# Altium integrated library SignalCommunications.IntLib: 804 symbols (part 3 of 10)
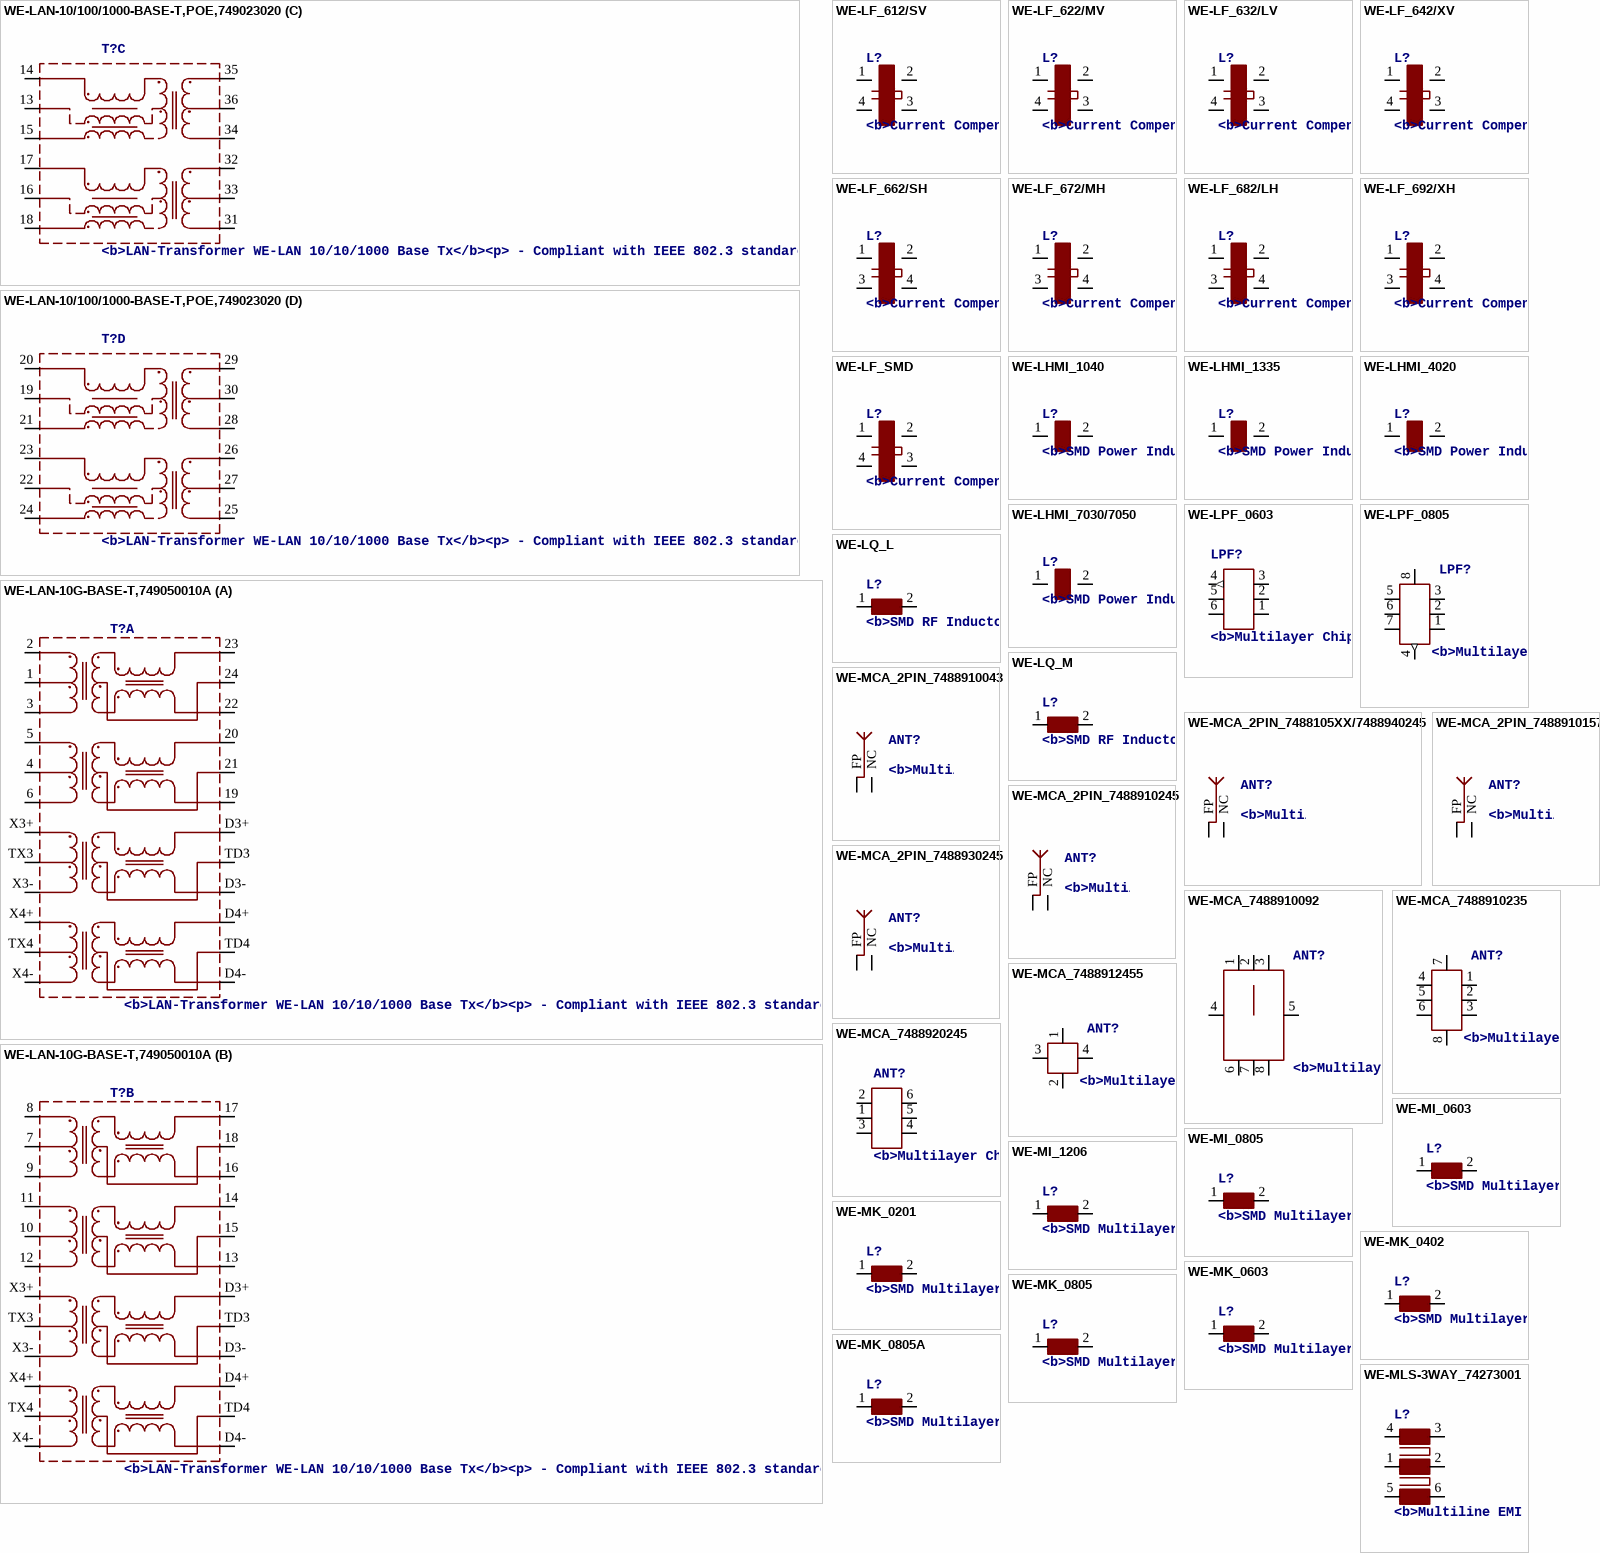
[diagram p44: symbols WE-LAN-10/100/1000-BASE-T,POE,749023020 to WE-MLS-3WAY_74273001]

## WE-MK_0805A
designator L?, comment <b>SMD Multilayer Ceramic Inductors WE-MK</b><br><br> / - Windings printed on ceramic substrate<br> / - Extremely high SRF > 15 GHz<br> / - Inductance is stable over temperature<br><br> / -- High frequency circuits<br> / -- Bluetooth<br> / -- Wireless LAN<br> / -- Filter circuits<br>
footprint 0805A
pins: 1, 2

## WE-MLS-3WAY_74273001
designator L?, comment <b>Multiline EMI Suppression Ferrite</b><p> / - Filter for common mode or differential mode<br> / - High rated current with typ. 4 A<br> / - High impedance common mode inductor with 2x2 winding made by PCB line connection<br> / - Broardband litering because of the NiZn-ferrite core<br> / - RF- common mode inductor for 2,3 or 4 lines in one component<p> / -- Perfect suitable for absorption of common or differential / mode interferences in the field of EMC<br> / -- High current DC output filters of power supplies e.g. / battery chargers, industrial power supplies<br> / -- With one turn the component performes like a 3 or 4 times common mode chock for the signal
footprint WE-3WAY_74273001
pins: 1 2, 2 5, 3 6, 4 1, 5 3, 6 4

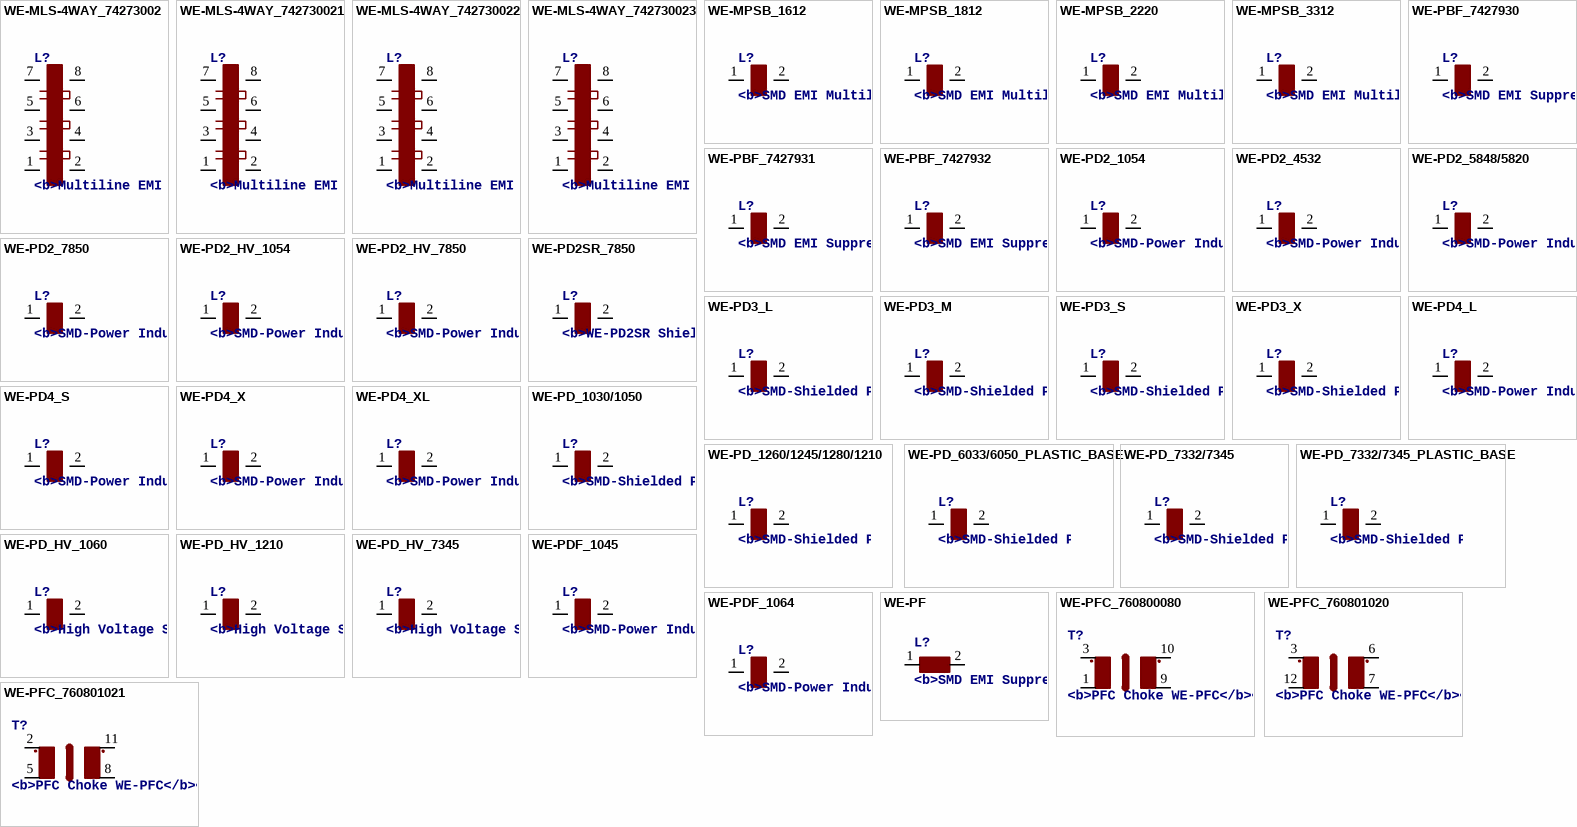
[diagram p10: symbols WE-MLS-4WAY_74273002 to WE-PFC_760801021]

## WE-MLS-4WAY_74273002
designator L?, comment <b>Multiline EMI Suppression Ferrite</b><p> / - Filter for common mode or differential mode<br> / - High rated current with typ. 4 A<br> / - High impedance common mode inductor with 2x2 winding made by PCB line connection<br> / - Broardband litering because of the NiZn-ferrite core<br> / - RF- common mode inductor for 2,3 or 4 lines in one component<p> / -- Perfect suitable for absorption of common or differential / mode interferences in the field of EMC<br> / -- High current DC output filters of power supplies e.g. / battery chargers, industrial power supplies<br> / -- With one turn the component performes like a 3 or 4 times common mode chock for the signal
footprint WE-4WAY_74273002
pins: 1 4, 2 5, 3, 4 6, 5 2, 6 7, 7 1, 8

## WE-MLS-4WAY_742730021
designator L?, comment <b>Multiline EMI Suppression Ferrite</b><p> / - Filter for common mode or differential mode<br> / - High rated current with typ. 4 A<br> / - High impedance common mode inductor with 2x2 winding made by PCB line connection<br> / - Broardband litering because of the NiZn-ferrite core<br> / - RF- common mode inductor for 2,3 or 4 lines in one component<p> / -- Perfect suitable for absorption of common or differential / mode interferences in the field of EMC<br> / -- High current DC output filters of power supplies e.g. / battery chargers, industrial power supplies<br> / -- With one turn the component performes like a 3 or 4 times common mode chock for the signal
footprint WE-4WAY_742730021
pins: 1 4, 2 5, 3, 4 6, 5 2, 6 7, 7 1, 8

## WE-MLS-4WAY_742730022
designator L?, comment <b>Multiline EMI Suppression Ferrite</b><p> / - Filter for common mode or differential mode<br> / - High rated current with typ. 4 A<br> / - High impedance common mode inductor with 2x2 winding made by PCB line connection<br> / - Broardband litering because of the NiZn-ferrite core<br> / - RF- common mode inductor for 2,3 or 4 lines in one component<p> / -- Perfect suitable for absorption of common or differential / mode interferences in the field of EMC<br> / -- High current DC output filters of power supplies e.g. / battery chargers, industrial power supplies<br> / -- With one turn the component performes like a 3 or 4 times common mode chock for the signal
footprint WE-4WAY_742730022
pins: 1 4, 2 5, 3, 4 6, 5 2, 6 7, 7 1, 8

## WE-MLS-4WAY_742730023
designator L?, comment <b>Multiline EMI Suppression Ferrite</b><p> / - Filter for common mode or differential mode<br> / - High rated current with typ. 4 A<br> / - High impedance common mode inductor with 2x2 winding made by PCB line connection<br> / - Broardband litering because of the NiZn-ferrite core<br> / - RF- common mode inductor for 2,3 or 4 lines in one component<p> / -- Perfect suitable for absorption of common or differential / mode interferences in the field of EMC<br> / -- High current DC output filters of power supplies e.g. / battery chargers, industrial power supplies<br> / -- With one turn the component performes like a 3 or 4 times common mode chock for the signal
footprint WE-4WAY_742730023
pins: 1 4, 2 5, 3, 4 6, 5 2, 6 7, 7 1, 8

## WE-MPSB_1612
designator L?, comment <b>SMD EMI Multilayer Power Suppression Bead WE-MPSB</b><p> / - High rated current up to 10A <br> / - Very low RDC <p> / -- EMI suppression of DC/DC converters and DC power supply
footprint WE-MPSB_1612
pins: 1, 2

## WE-MPSB_1812
designator L?, comment <b>SMD EMI Multilayer Power Suppression Bead WE-MPSB</b><p> / - High rated current up to 10A <br> / - Very low RDC <p> / -- EMI suppression of DC/DC converters and DC power supply
footprint WE-MPSB_1812
pins: 1, 2

## WE-MPSB_2220
designator L?, comment <b>SMD EMI Multilayer Power Suppression Bead WE-MPSB</b><p> / - High rated current up to 10A <br> / - Very low RDC <p> / -- EMI suppression of DC/DC converters and DC power supply
footprint WE-MPSB_2220
pins: 1, 2

## WE-MPSB_3312
designator L?, comment <b>SMD EMI Multilayer Power Suppression Bead WE-MPSB</b><p> / - High rated current up to 10A <br> / - Very low RDC <p> / -- EMI suppression of DC/DC converters and DC power supply
footprint WE-MPSB_3312
pins: 1, 2

## WE-PBF_7427930
designator L?, comment <b>SMD EMI Suppression Ferrite Beads WE-PBF</b><p> / - Flat wire <br> / - Suuitable for applications with high currents up to 6A <br> / - Glued version: High mechanical stability<p> / -- Voltage supply for high load current<br> / -- Glued version: Especially for applications with permanent vibrations
footprint WE-PBF_7427930
pins: 1, 2

## WE-PBF_7427931
designator L?, comment <b>SMD EMI Suppression Ferrite Beads WE-PBF</b><p> / - Flat wire <br> / - Suuitable for applications with high currents up to 6A <br> / - Glued version: High mechanical stability<p> / -- Voltage supply for high load current<br> / -- Glued version: Especially for applications with permanent vibrations
footprint WE-PBF_7427931
pins: 1, 2

## WE-PBF_7427932
designator L?, comment <b>SMD EMI Suppression Ferrite Beads WE-PBF</b><p> / - Flat wire <br> / - Suuitable for applications with high currents up to 6A <br> / - Glued version: High mechanical stability<p> / -- Voltage supply for high load current<br> / -- Glued version: Especially for applications with permanent vibrations
footprint WE-PBF_7427932
pins: 1, 2

## WE-PD2_1054
designator L?, comment <b>SMD-Power Inductors WE-PD2</b><p> / - Industry standard size<br> / - Current capability up to 14 A<p> / -- Switching regulators with low operating voltages / (computer, laptop, mobile phones, pagers)<br> / -- Integrated DC/DC-converter<br> / -- Is recommended for the application with switching / regulators from National Semiconductor, Linear Technology, / Texas Instruments and Fairchild Semiconductor<br> / -- Perfectly suitable for switching regulators with extremely high efficiency
footprint WE-PD2_1054
pins: 1, 2

## WE-PD2_4532
designator L?, comment <b>SMD-Power Inductors WE-PD2</b><p> / - Industry standard size<br> / - Current capability up to 14 A<p> / -- Switching regulators with low operating voltages / (computer, laptop, mobile phones, pagers)<br> / -- Integrated DC/DC-converter<br> / -- Is recommended for the application with switching / regulators from National Semiconductor, Linear Technology, / Texas Instruments and Fairchild Semiconductor<br> / -- Perfectly suitable for switching regulators with extremely high efficiency
footprint WE-PD2_4532
pins: 1, 2

## WE-PD2_5848/5820
designator L?, comment <b>SMD-Power Inductors WE-PD2</b><p> / - Industry standard size<br> / - Current capability up to 14 A<p> / -- Switching regulators with low operating voltages / (computer, laptop, mobile phones, pagers)<br> / -- Integrated DC/DC-converter<br> / -- Is recommended for the application with switching / regulators from National Semiconductor, Linear Technology, / Texas Instruments and Fairchild Semiconductor<br> / -- Perfectly suitable for switching regulators with extremely high efficiency
footprint WE-PD2_5848/5820
pins: 1, 2

## WE-PD2_7850
designator L?, comment <b>SMD-Power Inductors WE-PD2</b><p> / - Industry standard size<br> / - Current capability up to 14 A<p> / -- Switching regulators with low operating voltages / (computer, laptop, mobile phones, pagers)<br> / -- Integrated DC/DC-converter<br> / -- Is recommended for the application with switching / regulators from National Semiconductor, Linear Technology, / Texas Instruments and Fairchild Semiconductor<br> / -- Perfectly suitable for switching regulators with extremely high efficiency
footprint WE-PD2_7850
pins: 1, 2

## WE-PD2_HV_1054
designator L?, comment <b>SMD-Power Inductors WE-PD2 HV</b><p> / - Unshielde construction<br> / - Designed for 400VDC<p> / -- Non-isolated buck or buck-boost converter like Power Integrations LinkSwitch-TN<br> / -- Constant current LED driver<br> / -- Utility metering<br> / -- Filter for power supply
MANUFACTURER: Würth Elektronik eiSos GmbH; CREATED-BY: Christin Otto; COMPANY-URL: http://we-online.de; CREATED-DATE: August 2013; DATASHEET-URL: http://katalog.we-online.de/de/pbs/WE-PD2_HV?sid=1d9d32b2a9#vs_ct:2
footprint WE-PD2_1054
pins: 1, 2

## WE-PD2_HV_7850
designator L?, comment <b>SMD-Power Inductors WE-PD2 HV</b><p> / - Unshielde construction<br> / - Designed for 400VDC<p> / -- Non-isolated buck or buck-boost converter like Power Integrations LinkSwitch-TN<br> / -- Constant current LED driver<br> / -- Utility metering<br> / -- Filter for power supply
MANUFACTURER: Würth Elektronik eiSos GmbH; CREATED-BY: Christin Otto; COMPANY-URL: http://we-online.de; CREATED-DATE: August 2013; DATASHEET-URL: http://katalog.we-online.de/de/pbs/WE-PD2_HV?sid=27407868f1#vs_ct:1
footprint WE-PD2_7850
pins: 1, 2

## WE-PD2SR_7850
designator L?, comment <b>WE-PD2SR Shielded Power Inductor</b><p> / - Magnetic shielded version from the WE-PD2, which results in a low leakage field<br> / - Stable inductance current due the self-centering shielding ring construction<br> / - Pin compatible with the PD2 size 7850 ready to solder an test<br> / - Recommended solder profile: Reflow<br> / - Operating temperature: -40°C up to +125°C<p> / -- Switching regulators with low operation voltage like in portable devices <br> / -- Integrated DC-/DC-Converter
MANUFACTURER: Würth Elektronik eiSos GmbH; CREATED-BY: Christin Otto; COMPANY-URL: http://www.we-online.de; CREATED-DATE: August 2013; DATASHEET-URL: http://katalog.we-online.de/de/pbs/WE-PD2SR?sid=c66c462997
footprint WE-PD2SR_7850
pins: 1, 2

## WE-PD3_L
designator L?, comment <b>SMD-Shielded Power Inductor WE-PD3</b><p> / - Magnetically shielded version which results in a low leakage field<br> / - High storage capacity<br> / - Low inherent-losses<br> / - Extremely low profile of type M: 2,7mm<br><br> / -- Is recommended for the application with switching / regulators from National Semiconductor, Linear Technology, / Texas Instruments and Fairchild Semiconductor<br> / -- EMI filter<br> / -- Perfectly suitable for switching regulators with extremely high efficiency
footprint L
pins: 1, 2

## WE-PD3_M
designator L?, comment <b>SMD-Shielded Power Inductor WE-PD3</b><p> / - Magnetically shielded version which results in a low leakage field<br> / - High storage capacity<br> / - Low inherent-losses<br> / - Extremely low profile of type M: 2,7mm<br><br> / -- Is recommended for the application with switching / regulators from National Semiconductor, Linear Technology, / Texas Instruments and Fairchild Semiconductor<br> / -- EMI filter<br> / -- Perfectly suitable for switching regulators with extremely high efficiency
footprint M
pins: 1, 2

## WE-PD3_S
designator L?, comment <b>SMD-Shielded Power Inductor WE-PD3</b><p> / - Magnetically shielded version which results in a low leakage field<br> / - High storage capacity<br> / - Low inherent-losses<br> / - Extremely low profile of type M: 2,7mm<br><br> / -- Is recommended for the application with switching / regulators from National Semiconductor, Linear Technology, / Texas Instruments and Fairchild Semiconductor<br> / -- EMI filter<br> / -- Perfectly suitable for switching regulators with extremely high efficiency
footprint S
pins: 1, 2

## WE-PD3_X
designator L?, comment <b>SMD-Shielded Power Inductor WE-PD3</b><p> / - Magnetically shielded version which results in a low leakage field<br> / - High storage capacity<br> / - Low inherent-losses<br> / - Extremely low profile of type M: 2,7mm<br><br> / -- Is recommended for the application with switching / regulators from National Semiconductor, Linear Technology, / Texas Instruments and Fairchild Semiconductor<br> / -- EMI filter<br> / -- Perfectly suitable for switching regulators with extremely high efficiency
footprint X
pins: 1, 2

## WE-PD4_L
designator L?, comment <b>SMD-Power Inductors WE-PD4</b><p> / - Current loading up to 35 A<br> / - Compact size<br> / - Low-loss ferrite core<br> / - High storage capacity<br> / - Industry standardized size<br> / - Application frequency range up to 10 MHz<br><br> / -- Is recommended for the application with switching / regulators from National Semiconductor, Linear Technology, / Texas Instruments and Fairchild Semiconductor<br> / -- Noise suppression<br> / -- Perfectly suitable for switching regulators with extremely high efficiency
footprint L
pins: 1, 2

## WE-PD4_S
designator L?, comment <b>SMD-Power Inductors WE-PD4</b><p> / - Current loading up to 35 A<br> / - Compact size<br> / - Low-loss ferrite core<br> / - High storage capacity<br> / - Industry standardized size<br> / - Application frequency range up to 10 MHz<br><br> / -- Is recommended for the application with switching / regulators from National Semiconductor, Linear Technology, / Texas Instruments and Fairchild Semiconductor<br> / -- Noise suppression<br> / -- Perfectly suitable for switching regulators with extremely high efficiency
footprint S
pins: 1, 2

## WE-PD4_X
designator L?, comment <b>SMD-Power Inductors WE-PD4</b><p> / - Current loading up to 35 A<br> / - Compact size<br> / - Low-loss ferrite core<br> / - High storage capacity<br> / - Industry standardized size<br> / - Application frequency range up to 10 MHz<br><br> / -- Is recommended for the application with switching / regulators from National Semiconductor, Linear Technology, / Texas Instruments and Fairchild Semiconductor<br> / -- Noise suppression<br> / -- Perfectly suitable for switching regulators with extremely high efficiency
footprint X
pins: 1, 2

## WE-PD4_XL
designator L?, comment <b>SMD-Power Inductors WE-PD4</b><p> / - Current loading up to 35 A<br> / - Compact size<br> / - Low-loss ferrite core<br> / - High storage capacity<br> / - Industry standardized size<br> / - Application frequency range up to 10 MHz<br><br> / -- Is recommended for the application with switching / regulators from National Semiconductor, Linear Technology, / Texas Instruments and Fairchild Semiconductor<br> / -- Noise suppression<br> / -- Perfectly suitable for switching regulators with extremely high efficiency
footprint XL
pins: 1, 2

## WE-PD_1030/1050
designator L?, comment <b>SMD-Shielded Power Inductors WE-PD</b><p> / - Magnetically shielded version which results in a low leakage field<br> / - High storage capacity<br> / - Low self-losses<br> / - Highest possible current loading for SMD-Inducors<br><br> / -- Switching regulators with low operating voltages / (computer, laptop, mobile phones, pagers)<br> / -- Integrated DC/DC-converter<br> / -- Is recommended for the application with switching / regulators from National Semiconductor, Linear Technology, / Texas Instruments and Fairchild Semiconductor, ect.<br> / -- Graphic cards<br> / -- Plastic base: Because of the one piece construction these are more suitable for high vibration or shock applications
footprint WE-PD_1030/1050
pins: 1, 2

## WE-PD_1260/1245/1280/1210
designator L?, comment <b>SMD-Shielded Power Inductors WE-PD</b><p> / - Magnetically shielded version which results in a low leakage field<br> / - High storage capacity<br> / - Low self-losses<br> / - Highest possible current loading for SMD-Inducors<br><br> / -- Switching regulators with low operating voltages / (computer, laptop, mobile phones, pagers)<br> / -- Integrated DC/DC-converter<br> / -- Is recommended for the application with switching / regulators from National Semiconductor, Linear Technology, / Texas Instruments and Fairchild Semiconductor, ect.<br> / -- Graphic cards<br> / -- Plastic base: Because of the one piece construction these are more suitable for high vibration or shock applications
footprint WE-PD_1260/1245/1280/1210
pins: 1, 2

## WE-PD_6033/6050_PLASTIC_BASE
designator L?, comment <b>SMD-Shielded Power Inductors WE-PD</b><p> / - Magnetically shielded version which results in a low leakage field<br> / - High storage capacity<br> / - Low self-losses<br> / - Highest possible current loading for SMD-Inducors<br><br> / -- Switching regulators with low operating voltages / (computer, laptop, mobile phones, pagers)<br> / -- Integrated DC/DC-converter<br> / -- Is recommended for the application with switching / regulators from National Semiconductor, Linear Technology, / Texas Instruments and Fairchild Semiconductor, ect.<br> / -- Graphic cards<br> / -- Plastic base: Because of the one piece construction these are more suitable for high vibration or shock applications
footprint WE-PD_6033/6050_PLASTIC_BASE
pins: 1, 2

## WE-PD_7332/7345
designator L?, comment <b>SMD-Shielded Power Inductors WE-PD</b><p> / - Magnetically shielded version which results in a low leakage field<br> / - High storage capacity<br> / - Low self-losses<br> / - Highest possible current loading for SMD-Inducors<br><br> / -- Switching regulators with low operating voltages / (computer, laptop, mobile phones, pagers)<br> / -- Integrated DC/DC-converter<br> / -- Is recommended for the application with switching / regulators from National Semiconductor, Linear Technology, / Texas Instruments and Fairchild Semiconductor, ect.<br> / -- Graphic cards<br> / -- Plastic base: Because of the one piece construction these are more suitable for high vibration or shock applications
footprint WE-PD_7332/7345
pins: 1, 2

## WE-PD_7332/7345_PLASTIC_BASE
designator L?, comment <b>SMD-Shielded Power Inductors WE-PD</b><p> / - Magnetically shielded version which results in a low leakage field<br> / - High storage capacity<br> / - Low self-losses<br> / - Highest possible current loading for SMD-Inducors<br><br> / -- Switching regulators with low operating voltages / (computer, laptop, mobile phones, pagers)<br> / -- Integrated DC/DC-converter<br> / -- Is recommended for the application with switching / regulators from National Semiconductor, Linear Technology, / Texas Instruments and Fairchild Semiconductor, ect.<br> / -- Graphic cards<br> / -- Plastic base: Because of the one piece construction these are more suitable for high vibration or shock applications
footprint WE-PD_7332/7345_PLASTIC_BASE
pins: 1, 2

## WE-PD_HV_1060
designator L?, comment <b>High Voltage SMD Power Inductor</b><p> / - Shielded part for ideal wire protection<br> / - Operating Temperature: –40 °C to +125 °C<br> / - Magnetically schielded<br> / - Designed for 400 VDC Applications<br><br> / -- Non-isolated buck or buck-boost converter like Power Integrations LinkSwitch-TN<br> / -- Constant current LED driver<br> / -- Utility metering<br> / -- Filter for power supply
MANUFACTRUER: Würth Elektronik eiSos GmbH; CREATED-BY: Christin Otto; COMPANY-URL: http://we-online.de; CREATED-DATE: August 2013; DATASHEET-URL: http://katalog.we-online.de/de/pbs/WE-PD_HV?sid=723d840c1d#vs_ct:1
footprint WE-PD_HV_1060
pins: 1, 2

## WE-PD_HV_1210
designator L?, comment <b>High Voltage SMD Power Inductor</b><p> / - Shielded part for ideal wire protection<br> / - Operating Temperature: –40 °C to +125 °C<br> / - Magnetically schielded<br> / - Designed for 400 VDC Applications<br><br> / -- Non-isolated buck or buck-boost converter like Power Integrations LinkSwitch-TN<br> / -- Constant current LED driver<br> / -- Utility metering<br> / -- Filter for power supply
MANUFACTURER: Würth Elektronik eiSos GmbH; CREATED-BY: Christin Otto; COMPANY-URL: http://we-online.de; CREATE-DATE: August 2013; DATASHEET-URL: http://katalog.we-online.de/de/pbs/WE-PD_HV?sid=723d840c1d#vs_ct:2
footprint WE-PD_1260/1245/1280/1210
pins: 1, 2

## WE-PD_HV_7345
designator L?, comment <b>High Voltage SMD Power Inductor</b><p> / - Shielded part for ideal wire protection<br> / - Operating Temperature: –40 °C to +125 °C<br> / - Magnetically schielded<br> / - Designed for 400 VDC Applications<br><br> / -- Non-isolated buck or buck-boost converter like Power Integrations LinkSwitch-TN<br> / -- Constant current LED driver<br> / -- Utility metering<br> / -- Filter for power supply
MANUFACTURER: Würth Elektronik eiSos GmbH; CREATED-BY: Christin Otto; COMPANY-URL: http://we-online.de; CREATED-DATE: August 2013; DATASHEET-URL: http://katalog.we-online.de/de/pbs/WE-PD_HV?sid=723d840c1d#vs_ct:3
footprint WE-PD_7332/7345_PLASTIC_BASE
pins: 1, 2

## WE-PDF_1045
designator L?, comment <b>SMD-Power Inductor WE-PDF</b><p> / - Core material: NiZn<br> / - Flat wire power inductor<br> / - High storage capability<br> / - Magnatically shielded which results in a low leakage field<br> / - Low self-losses<br> / - High saturatuin current<br> / - Flat wire coil for lower losses at high frequency ranges<br> / - High self resonances frequency<br> / <br> / -- Suitable for IC´s of Linear Technology, National Semiconductor, / Texas Instruments, Fairchild Semiconductor, Maxine, Semtech, ON Semiconductor, Cologne Chip, STMicroelectronics, MPS, Analogic Tech, Exar and Diodes
footprint WE-PDF
pins: 1, 2

## WE-PDF_1064
designator L?, comment <b>SMD-Power Inductor WE-PDF</b><p> / - Core material: NiZn<br> / - Flat wire power inductor<br> / - High storage capability<br> / - Magnatically shielded which results in a low leakage field<br> / - Low self-losses<br> / - High saturatuin current<br> / - Flat wire coil for lower losses at high frequency ranges<br> / - High self resonances frequency<br> / <br> / -- Suitable for IC´s of Linear Technology, National Semiconductor, / Texas Instruments, Fairchild Semiconductor, Maxine, Semtech, ON Semiconductor, Cologne Chip, STMicroelectronics, MPS, Analogic Tech, Exar and Diodes
footprint WE-PDF
pins: 1, 2

## WE-PF
designator L?, comment <b>SMD EMI Suppression Power Ferrites WE-PF</b><br><br> / - WE-PF for applications with high currents up to 10 A<br><br> / -- For interference suppressions in motors
footprint WE-PF_7427929...
pins: 1, 2

## WE-PFC_760800080
designator T?, comment <b>PFC Choke WE-PFC</b><br><br> / - PFC choke for power up to 125W<br> / - Operating temperature:-40°C to +125°C<br><br> / -- Active Power Factor correction<br> / -- for ICs NCP1606B & MC33262 of ON Semiconductor<br> / -- Lighting applications
footprint WE_EE20/10/6_THT_HORIZONTAL_10PIN
pins: 1 3, 3 1, 9 4, 10 6

## WE-PFC_760801020
designator T?, comment <b>PFC Choke WE-PFC</b><br><br> / - PFC choke for power up to 125W<br> / - Operating temperature:-40°C to +125°C<br><br> / -- Active Power Factor correction<br> / -- for ICs NCP1606B & MC33262 of ON Semiconductor<br> / -- Lighting applications
footprint WE_RM10_THT_12PIN
pins: 3 1, 6, 7 4, 12 3

## WE-PFC_760801021
designator T?, comment <b>PFC Choke WE-PFC</b><br><br> / - PFC choke for power up to 125W<br> / - Operating temperature:-40°C to +125°C<br><br> / -- Active Power Factor correction<br> / -- for ICs NCP1606B & MC33262 of ON Semiconductor<br> / -- Lighting applications
footprint WE_EFD30_THT_12PIN
pins: 2 1, 5 3, 8 4, 11 6

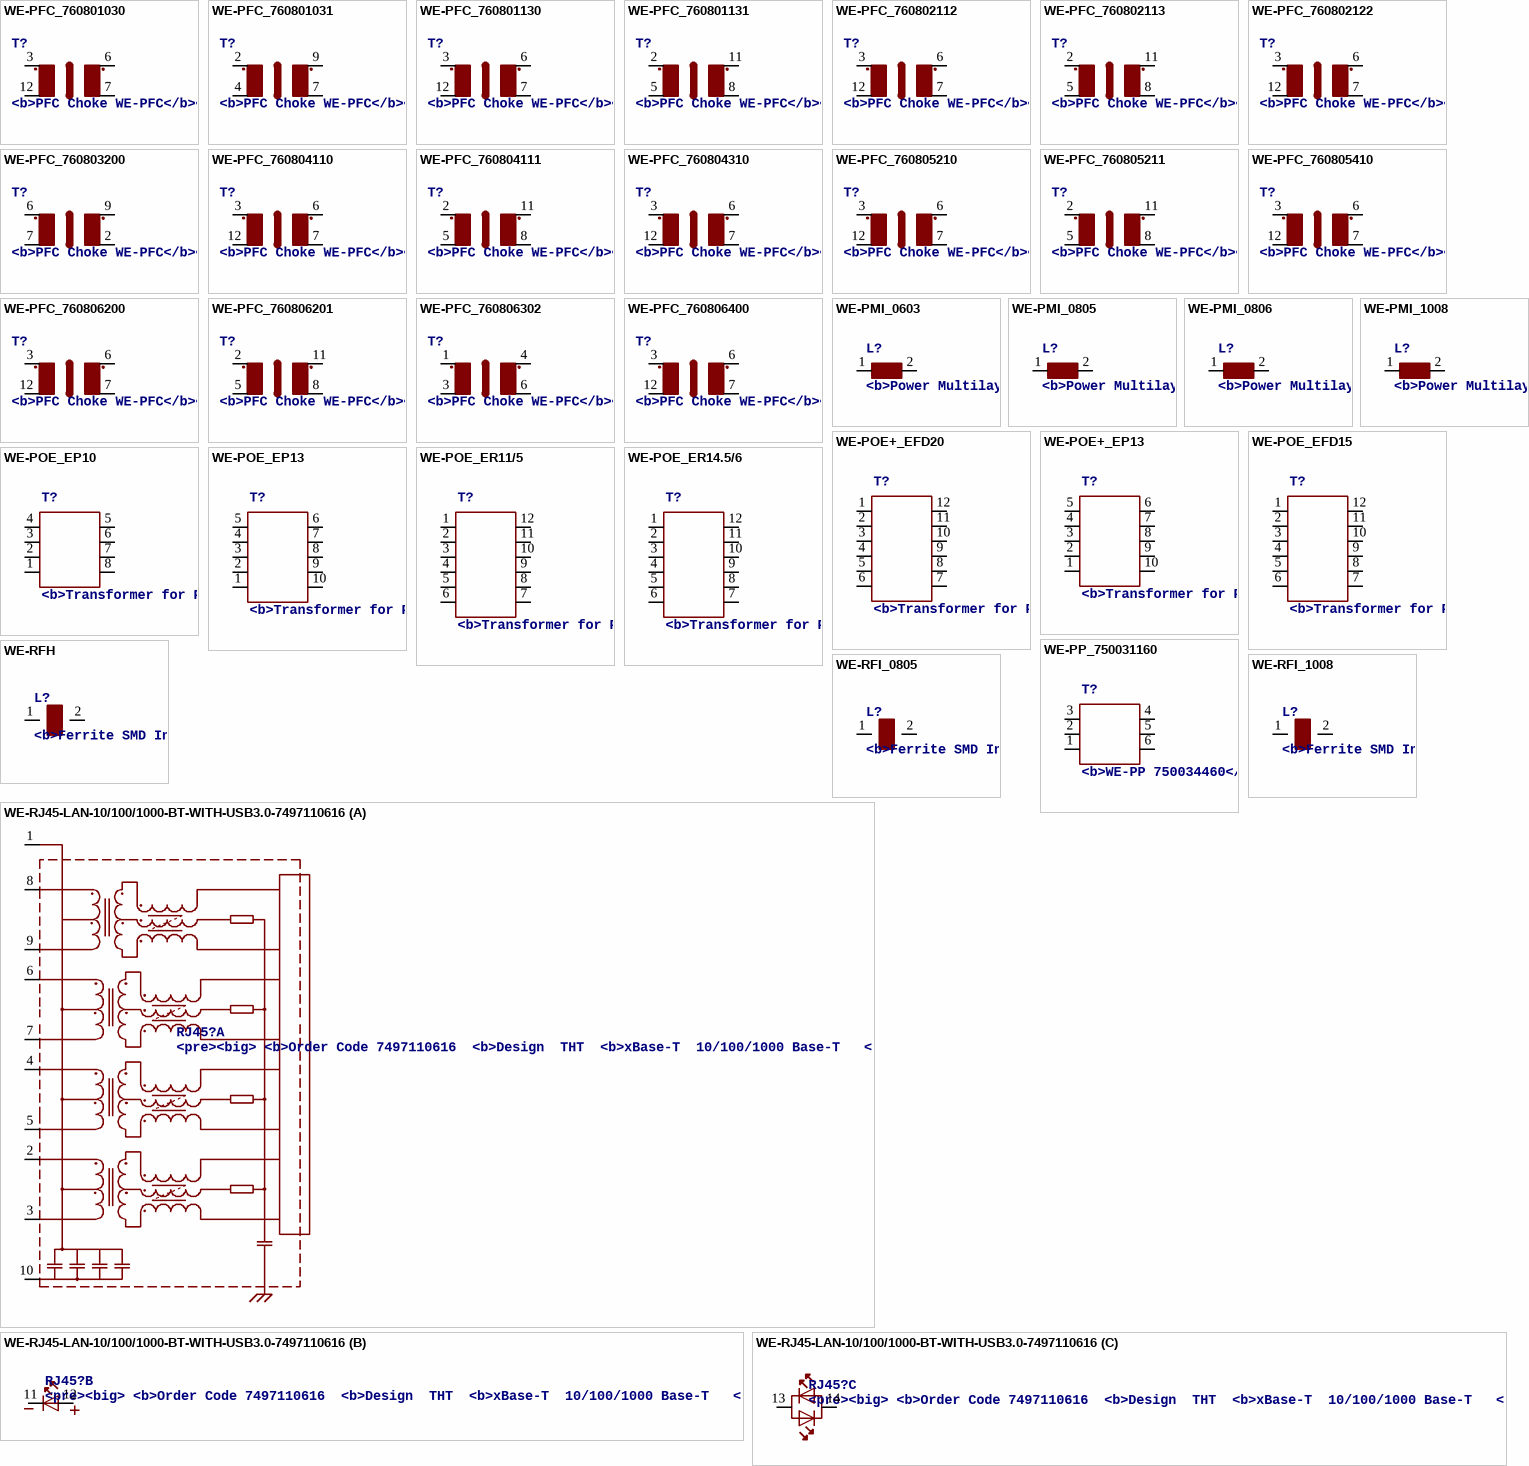
[diagram p11: symbols WE-PFC_760801030 to WE-RJ45-LAN-10/100/1000-BT-WITH-USB3.0-7497110616]

## WE-PFC_760801030
designator T?, comment <b>PFC Choke WE-PFC</b><br><br> / - PFC choke for power up to 125W<br> / - Operating temperature:-40°C to +125°C<br><br> / -- Active Power Factor correction<br> / -- for ICs NCP1606B & MC33262 of ON Semiconductor<br> / -- Lighting applications
footprint WE_RM10_THT_12PIN
pins: 3 1, 6, 7 4, 12 3

## WE-PFC_760801031
designator T?, comment <b>PFC Choke WE-PFC</b><br><br> / - PFC choke for power up to 125W<br> / - Operating temperature:-40°C to +125°C<br><br> / -- Active Power Factor correction<br> / -- for ICs NCP1606B & MC33262 of ON Semiconductor<br> / -- Lighting applications
footprint WE_EFD25_THT_HORIZONTAL_10PIN
pins: 2 1, 4 3, 7 4, 9 6

## WE-PFC_760801130
designator T?, comment <b>PFC Choke WE-PFC</b><br><br> / - PFC choke for power up to 125W<br> / - Operating temperature:-40°C to +125°C<br><br> / -- Active Power Factor correction<br> / -- for ICs NCP1606B & MC33262 of ON Semiconductor<br> / -- Lighting applications
footprint WE_RM10_THT_12PIN
pins: 3 1, 6, 7 4, 12 3

## WE-PFC_760801131
designator T?, comment <b>PFC Choke WE-PFC</b><br><br> / - PFC choke for power up to 125W<br> / - Operating temperature:-40°C to +125°C<br><br> / -- Active Power Factor correction<br> / -- for ICs NCP1606B & MC33262 of ON Semiconductor<br> / -- Lighting applications
footprint WE_EFD30_THT_12PIN
pins: 2 1, 5 3, 8 4, 11 6

## WE-PFC_760802112
designator T?, comment <b>PFC Choke WE-PFC</b><br><br> / - PFC choke for power up to 125W<br> / - Operating temperature:-40°C to +125°C<br><br> / -- Active Power Factor correction<br> / -- for ICs NCP1606B & MC33262 of ON Semiconductor<br> / -- Lighting applications
footprint WE_RM10_THT_12PIN
pins: 3 1, 6, 7 4, 12 3

## WE-PFC_760802113
designator T?, comment <b>PFC Choke WE-PFC</b><br><br> / - PFC choke for power up to 125W<br> / - Operating temperature:-40°C to +125°C<br><br> / -- Active Power Factor correction<br> / -- for ICs NCP1606B & MC33262 of ON Semiconductor<br> / -- Lighting applications
footprint WE_EFD30_THT_12PIN
pins: 2 1, 5 3, 8 4, 11 6

## WE-PFC_760802122
designator T?, comment <b>PFC Choke WE-PFC</b><br><br> / - PFC choke for power up to 125W<br> / - Operating temperature:-40°C to +125°C<br><br> / -- Active Power Factor correction<br> / -- for ICs NCP1606B & MC33262 of ON Semiconductor<br> / -- Lighting applications
footprint WE_RM12_THT_12PIN
pins: 3 1, 6, 7 4, 12 3

## WE-PFC_760803200
designator T?, comment <b>PFC Choke WE-PFC</b><br><br> / - PFC choke for power up to 125W<br> / - Operating temperature:-40°C to +125°C<br><br> / -- Active Power Factor correction<br> / -- for ICs NCP1606B & MC33262 of ON Semiconductor<br> / -- Lighting applications
footprint WE_EER28_THT_HORIZONTAL_9PIN
pins: 2 4, 6 1, 7 3, 9 6

## WE-PFC_760804110
designator T?, comment <b>PFC Choke WE-PFC</b><br><br> / - PFC choke for power up to 125W<br> / - Operating temperature:-40°C to +125°C<br><br> / -- Active Power Factor correction<br> / -- for ICs NCP1606B & MC33262 of ON Semiconductor<br> / -- Lighting applications
footprint WE_RM10_THT_12PIN
pins: 3 1, 6, 7 4, 12 3

## WE-PFC_760804111
designator T?, comment <b>PFC Choke WE-PFC</b><br><br> / - PFC choke for power up to 125W<br> / - Operating temperature:-40°C to +125°C<br><br> / -- Active Power Factor correction<br> / -- for ICs NCP1606B & MC33262 of ON Semiconductor<br> / -- Lighting applications
footprint WE_EFD30_THT_12PIN
pins: 2 1, 5 3, 8 4, 11 6

## WE-PFC_760804310
designator T?, comment <b>PFC Choke WE-PFC</b><br><br> / - PFC choke for power up to 125W<br> / - Operating temperature:-40°C to +125°C<br><br> / -- Active Power Factor correction<br> / -- for ICs NCP1606B & MC33262 of ON Semiconductor<br> / -- Lighting applications
footprint WE_RM12_THT_12PIN
pins: 3 1, 6, 7 4, 12 3

## WE-PFC_760805210
designator T?, comment <b>PFC Choke WE-PFC</b><br><br> / - PFC choke for power up to 125W<br> / - Operating temperature:-40°C to +125°C<br><br> / -- Active Power Factor correction<br> / -- for ICs NCP1606B & MC33262 of ON Semiconductor<br> / -- Lighting applications
footprint WE_RM12_THT_12PIN
pins: 3 1, 6, 7 4, 12 3

## WE-PFC_760805211
designator T?, comment <b>PFC Choke WE-PFC</b><br><br> / - PFC choke for power up to 125W<br> / - Operating temperature:-40°C to +125°C<br><br> / -- Active Power Factor correction<br> / -- for ICs NCP1606B & MC33262 of ON Semiconductor<br> / -- Lighting applications
footprint WE_EFD30_THT_12PIN
pins: 2 1, 5 3, 8 4, 11 6

## WE-PFC_760805410
designator T?, comment <b>PFC Choke WE-PFC</b><br><br> / - PFC choke for power up to 125W<br> / - Operating temperature:-40°C to +125°C<br><br> / -- Active Power Factor correction<br> / -- for ICs NCP1606B & MC33262 of ON Semiconductor<br> / -- Lighting applications
footprint WE_RM14_THT_12PIN
pins: 3 1, 6, 7 4, 12 3

## WE-PFC_760806200
designator T?, comment <b>PFC Choke WE-PFC</b><br><br> / - PFC choke for power up to 125W<br> / - Operating temperature:-40°C to +125°C<br><br> / -- Active Power Factor correction<br> / -- for ICs NCP1606B & MC33262 of ON Semiconductor<br> / -- Lighting applications
footprint WE_RM12_THT_12PIN
pins: 3 1, 6, 7 4, 12 3

## WE-PFC_760806201
designator T?, comment <b>PFC Choke WE-PFC</b><br><br> / - PFC choke for power up to 125W<br> / - Operating temperature:-40°C to +125°C<br><br> / -- Active Power Factor correction<br> / -- for ICs NCP1606B & MC33262 of ON Semiconductor<br> / -- Lighting applications
footprint WE_EFD30_THT_12PIN
pins: 2 1, 5 3, 8 4, 11 6

## WE-PFC_760806302
designator T?, comment <b>PFC Choke WE-PFC</b><br><br> / - PFC choke for power up to 125W<br> / - Operating temperature:-40°C to +125°C<br><br> / -- Active Power Factor correction<br> / -- for ICs NCP1606B & MC33262 of ON Semiconductor<br> / -- Lighting applications
footprint WE_PQ38/11_6PIN
pins: 1, 3, 4 6, 6 4

## WE-PFC_760806400
designator T?, comment <b>PFC Choke WE-PFC</b><br><br> / - PFC choke for power up to 125W<br> / - Operating temperature:-40°C to +125°C<br><br> / -- Active Power Factor correction<br> / -- for ICs NCP1606B & MC33262 of ON Semiconductor<br> / -- Lighting applications
footprint WE_RM14_THT_12PIN
pins: 3 1, 6, 7 4, 12 3

## WE-PMI_0603
designator L?, comment <b>Power Multilayer Inductor WE-PMI</b><p> / - Compact multilayer type <br> / - Suitable for applocations with high currents up to 2.5 A<br> / - No crosstalk <p> / -- DC / DC converters especially at high switching frequencies<br> / -- Portable devices like PDA and digital cameras
footprint WE-PMI_0603
pins: 1, 2

## WE-PMI_0805
designator L?, comment <b>Power Multilayer Inductor WE-PMI</b><p> / - Compact multilayer type <br> / - Suitable for applocations with high currents up to 2.5 A<br> / - No crosstalk <p> / -- DC / DC converters especially at high switching frequencies<br> / -- Portable devices like PDA and digital cameras
footprint WE-PMI_0805
pins: 1, 2

## WE-PMI_0806
designator L?, comment <b>Power Multilayer Inductor WE-PMI</b><p> / - Compact multilayer type <br> / - Suitable for applocations with high currents up to 2.5 A<br> / - No crosstalk <p> / -- DC / DC converters especially at high switching frequencies<br> / -- Portable devices like PDA and digital cameras
footprint WE-PMI_0806
pins: 1, 2

## WE-PMI_1008
designator L?, comment <b>Power Multilayer Inductor WE-PMI</b><p> / - Compact multilayer type <br> / - Suitable for applocations with high currents up to 2.5 A<br> / - No crosstalk <p> / -- DC / DC converters especially at high switching frequencies<br> / -- Portable devices like PDA and digital cameras
footprint WE-PMI_1008
pins: 1, 2

## WE-POE+_EFD20
designator T?, comment <b>Transformer for Power-over-Ethernet WE-PoE+</b><p> / - Designed to meet 30W PoE+ objectives of IEEE802.3at<br> / - Frequency range: 250-400 kHz<br> / - Insulation voltage 1,5 kVAC/1 min<br> / - Input voltages 36V till 72V <br><br> / -- PoE+ Powered devices<br> / -- Ip phones <br> / -- WLAN-Access point<br> / -- Security cameras
footprint WE_EFD20_SMD_12PIN
pins: 1, 2, 3, 4, 5, 6, 7, 8, 9, 10, 11, 12

## WE-POE+_EP13
designator T?, comment <b>Transformer for Power-over-Ethernet WE-PoE+</b><p> / - Designed to meet 30W PoE+ objectives of IEEE802.3at<br> / - Frequency range: 250-400 kHz<br> / - Insulation voltage 1,5 kVAC/1 min<br> / - Input voltages 36V till 72V <br><br> / -- PoE+ Powered devices<br> / -- Ip phones <br> / -- WLAN-Access point<br> / -- Security cameras
footprint WE_EP13_SMD_10PIN
pins: 1 5, 2 4, 3, 4 2, 5 1, 6 10, 7 9, 8, 9 7, 10 6

## WE-POE_EFD15
designator T?, comment <b>Transformer for Power-over-Ethernet WE-PoE</b><p> / - Flyback converter transducer particularly for PoE PDs <br> / - Insulation voltage 1,5 kVAC/1 min<br> / - Input voltages 36V till 57V <br><br> / -- Flyback converters<br> / -- Power-over-Ethernet PDs
footprint WE_EFD15_SMD_12PIN
pins: 1, 2, 3, 4, 5, 6, 7, 8, 9, 10, 11, 12

## WE-POE_EP10
designator T?, comment <b>Transformer for Power-over-Ethernet WE-PoE</b><p> / - Flyback converter transducer particularly for PoE PDs <br> / - Insulation voltage 1,5 kVAC/1 min<br> / - Input voltages 36V till 80V <br><br> / -- Flyback converters<br> / -- Power-over-Ethernet PDs
footprint WE_EP10_SMD_8PIN
pins: 1, 2, 3, 4, 5, 6, 7, 8

## WE-POE_EP13
designator T?, comment <b>Transformer for Power-over-Ethernet WE-PoE</b><p> / - Flyback converter transducer particularly for PoE PDs <br> / - Insulation voltage 1,5 kVAC/1 min<br> / - Input voltages 36V till 57V <br><br> / -- Flyback converters<br> / -- Power-over-Ethernet PDs
footprint WE_EP13_SMD_10PIN
pins: 1 5, 2 4, 3, 4 2, 5 1, 6 10, 7 9, 8, 9 7, 10 6

## WE-POE_ER11/5
designator T?, comment <b>Transformer for Power-over-Ethernet WE-PoE</b><p> / - Flyback converter transducer particularly for PoE PDs <br> / - Insulation voltage 1,5 kVAC/1 min<br> / - Input voltages 36V till 57V <br><br> / -- Flyback converters<br> / -- Power-over-Ethernet PDs
footprint WE_ER11/5_SMD_12PIN
pins: 1, 2, 3, 4, 5, 6, 7, 8, 9, 10, 11, 12

## WE-POE_ER14.5/6
designator T?, comment <b>Transformer for Power-over-Ethernet WE-PoE</b><p> / - Flyback converter transducer particularly for PoE PDs <br> / - Insulation voltage 1,5 kVAC/1 min<br> / - Input voltages 36V till 57V <br><br> / -- Flyback converters<br> / -- Power-over-Ethernet PDs
footprint WE_ER14.5/6_SMD_12PIN
pins: 1, 2, 3, 4, 5, 6, 7, 8, 9, 10, 11, 12

## WE-PP_750031160
designator T?, comment <b>WE-PP 750034460</b><br><br> / - L= 500µH<br> / - Turns ration 1:2.7<br><br> / -- for LTC1535/MAX3535
footprint WE-PP_750031160
pins: 1, 2, 3, 4, 5, 6

## WE-RFH
designator L?, comment <b>Ferrite SMD Inductance WE-RFH</b><br><br> / - Inductance tolerances of 5%<br> / - High thermal stability<br> / - Recommended solder profile: Reflow<br> / - Operating temperature: Ceramic -40°C to +125°C, Ferrite -40°C to +85°C<br><br> / -- Developed especially for RF applications<br> / -- Perfect for telecommunication applications
footprint WE-RFH
pins: 1, 2

## WE-RFI_0805
designator L?, comment <b>Ferrite SMD Inductance WE-RFI</b><br><br> / - Inductance tolerances: 5%<br> / - High therminal stability<br> / - Recommended soldering: Reflow<br> / - Operating temperature: -40°C to +85°C<br><br> / -- Especially developed for RF applications<br> / -- RFID<br> / -- Low frequency radio applications (Keyless)
footprint WE-RFI_0805
pins: 1, 2

## WE-RFI_1008
designator L?, comment <b>Ferrite SMD Inductance WE-RFI</b><br><br> / - Inductance tolerances: 5%<br> / - High therminal stability<br> / - Recommended soldering: Reflow<br> / - Operating temperature: -40°C to +85°C<br><br> / -- Especially developed for RF applications<br> / -- RFID<br> / -- Low frequency radio applications (Keyless)
footprint WE-RFI_1008
pins: 1, 2

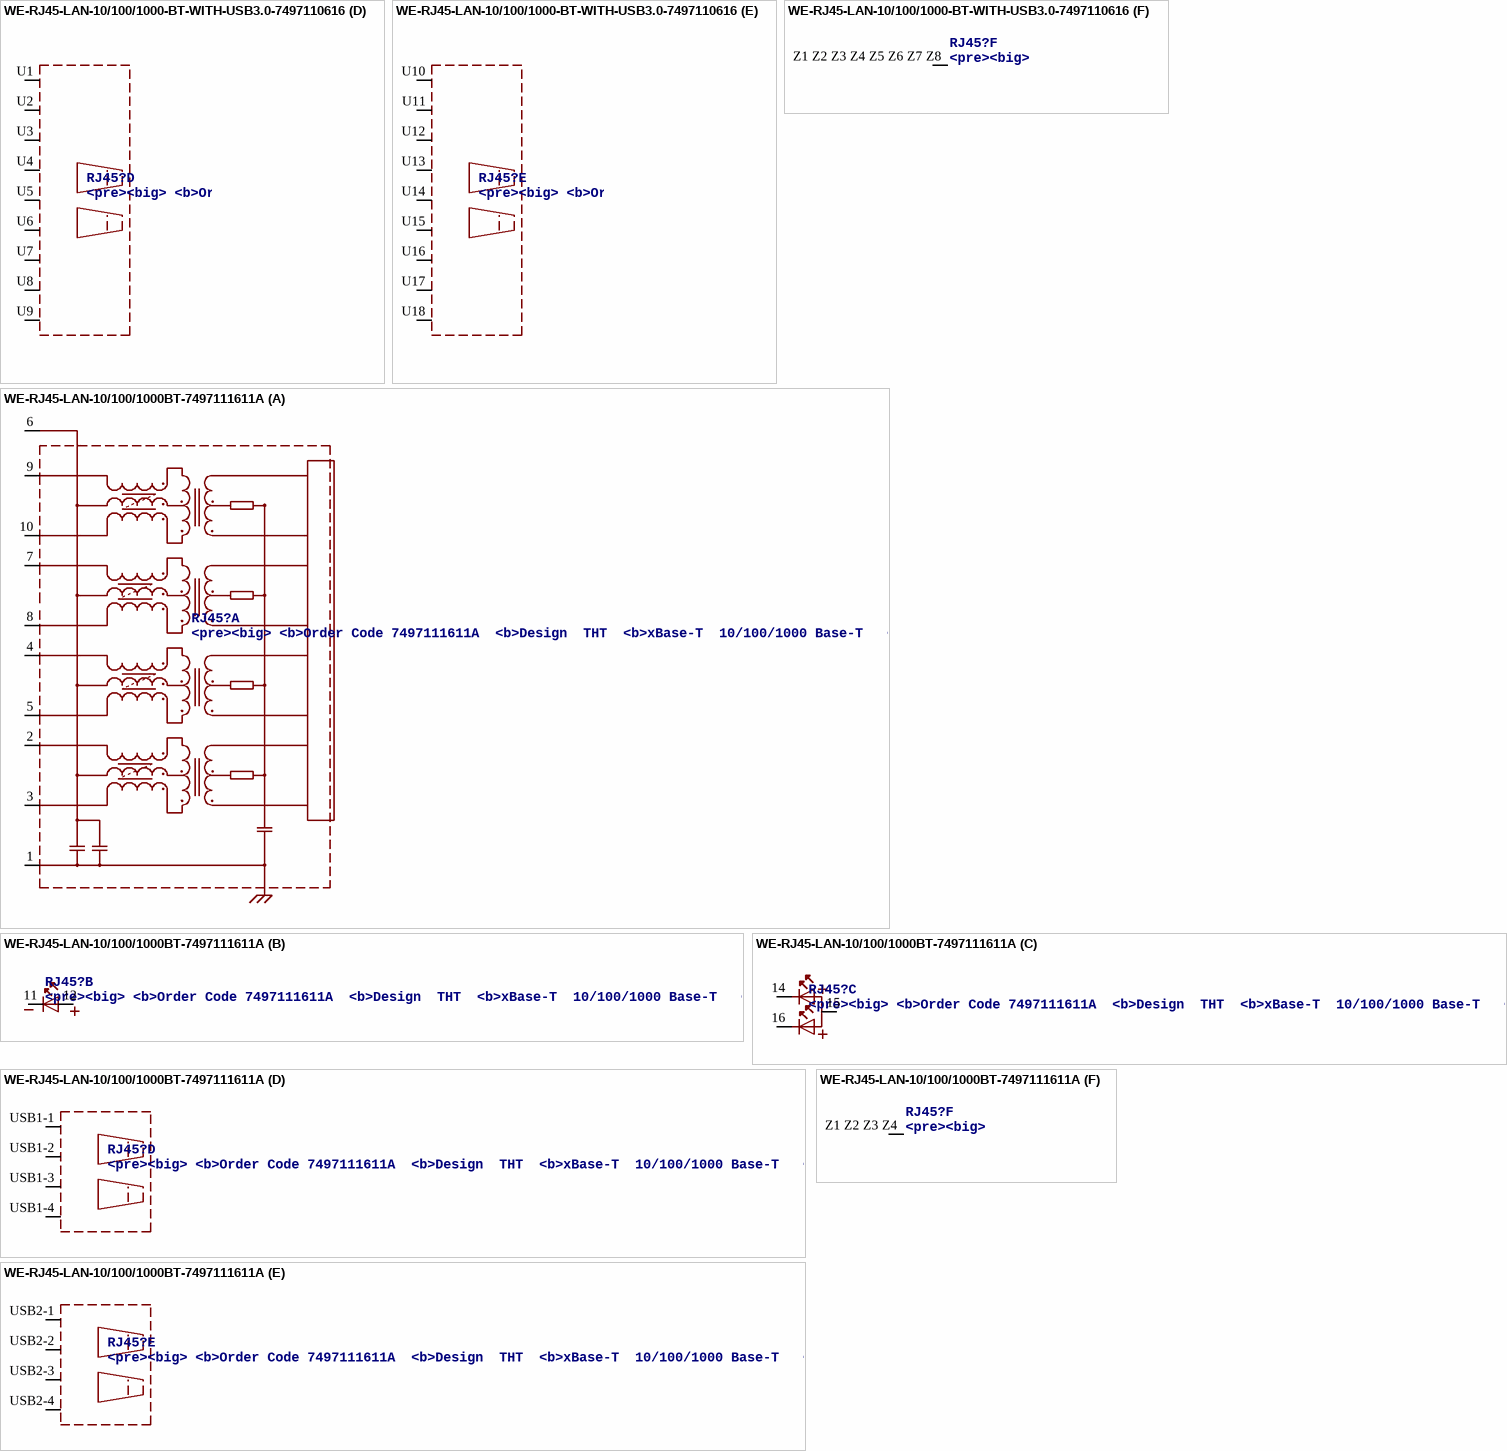
[diagram p12: symbols WE-RJ45-LAN-10/100/1000-BT-WITH-USB3.0-7497110616 to WE-RJ45-LAN-10/100/1000BT-7497111611A]

## WE-RJ45-LAN-10/100/1000-BT-WITH-USB3.0-7497110616
designator RJ45?, comment <pre><big> / <b>Order Code	7497110616 / <b>Design		THT / <b>xBase-T		10/100/1000 Base-T / <b>Ports		1x1 +2USB / <b>Application	Standard USB3.0 / <b>Tab Position	UP / <b>LED (Left-Right)	YELLOW-GREEN/OANGE / <b>EMI Fingers	NO
MANUFACTURER: Würth Elektronik eiSos GmbH; CREATED-BY: Christin Zierenner; COMPANY-URL: http://www.we-online.de; CREATED-DATE: AUG 2012; DATASHEET-URL: http://katalog.we-online.de/kataloge/eisos/media/pdf/7497110616.pdf
footprint 7497110616
part A pins: 1, 2, 3, 4, 5, 6, 7, 8, 9, 10 (power)
part B pins: 11 K, 12 A
part C pins: 13 AK1, 14 AK2
part D pins: U1 VCC (power), U2 D-, U3 D+, U4 GND (power), U5 RX-, U6 RX+, U7 GND_SIG (power), U8 TX-, U9 TX+
part E pins: U10 VCC (power), U11 D-, U12 D+, U13 GND (power), U14 RX-, U15 RX+, U16 GND_SIG (power), U17 TX-, U18 TX+
part F pins: Z1 Z2 Z3 Z4 Z5 Z6 Z7 Z8 P$1 (power)

## WE-RJ45-LAN-10/100/1000BT-7497111611A
designator RJ45?, comment <pre><big> / <b>Order Code	7497111611A / <b>Design		THT / <b>xBase-T		10/100/1000 Base-T / <b>Ports		1x1 + 2xUSB / <b>Application	Standard USB2.0 / <b>Tab Position	UP / <b>LED (Left-Right)	GREEN/ORANGE-YELLOW / <b>EMI Fingers	YES
MANUFACTURER: Würth Elektronik eiSos GmbH; CREATED-BY: Christin Zierenner; COMPANY-URL: http://www.we-online.de; CREATED-DATE: AUG 2012; DATASHEET-URL: http://katalog.we-online.de/kataloge/eisos/media/pdf/7497111611A.pdf
footprint 7497111611A
part A pins: 1 (power), 2, 3, 4, 5, 6, 7, 8, 9, 10
part B pins: 11 K, 12 A
part C pins: 14 K1, 15 A1, 16 K2
part D pins: USB1-1 VCC (power), USB1-2 D-, USB1-3 D+, USB1-4 GND (power)
part E pins: USB2-1 VCC (power), USB2-2 D-, USB2-3 D+, USB2-4 GND (power)
part F pins: Z1 Z2 Z3 Z4 P$1 (power)

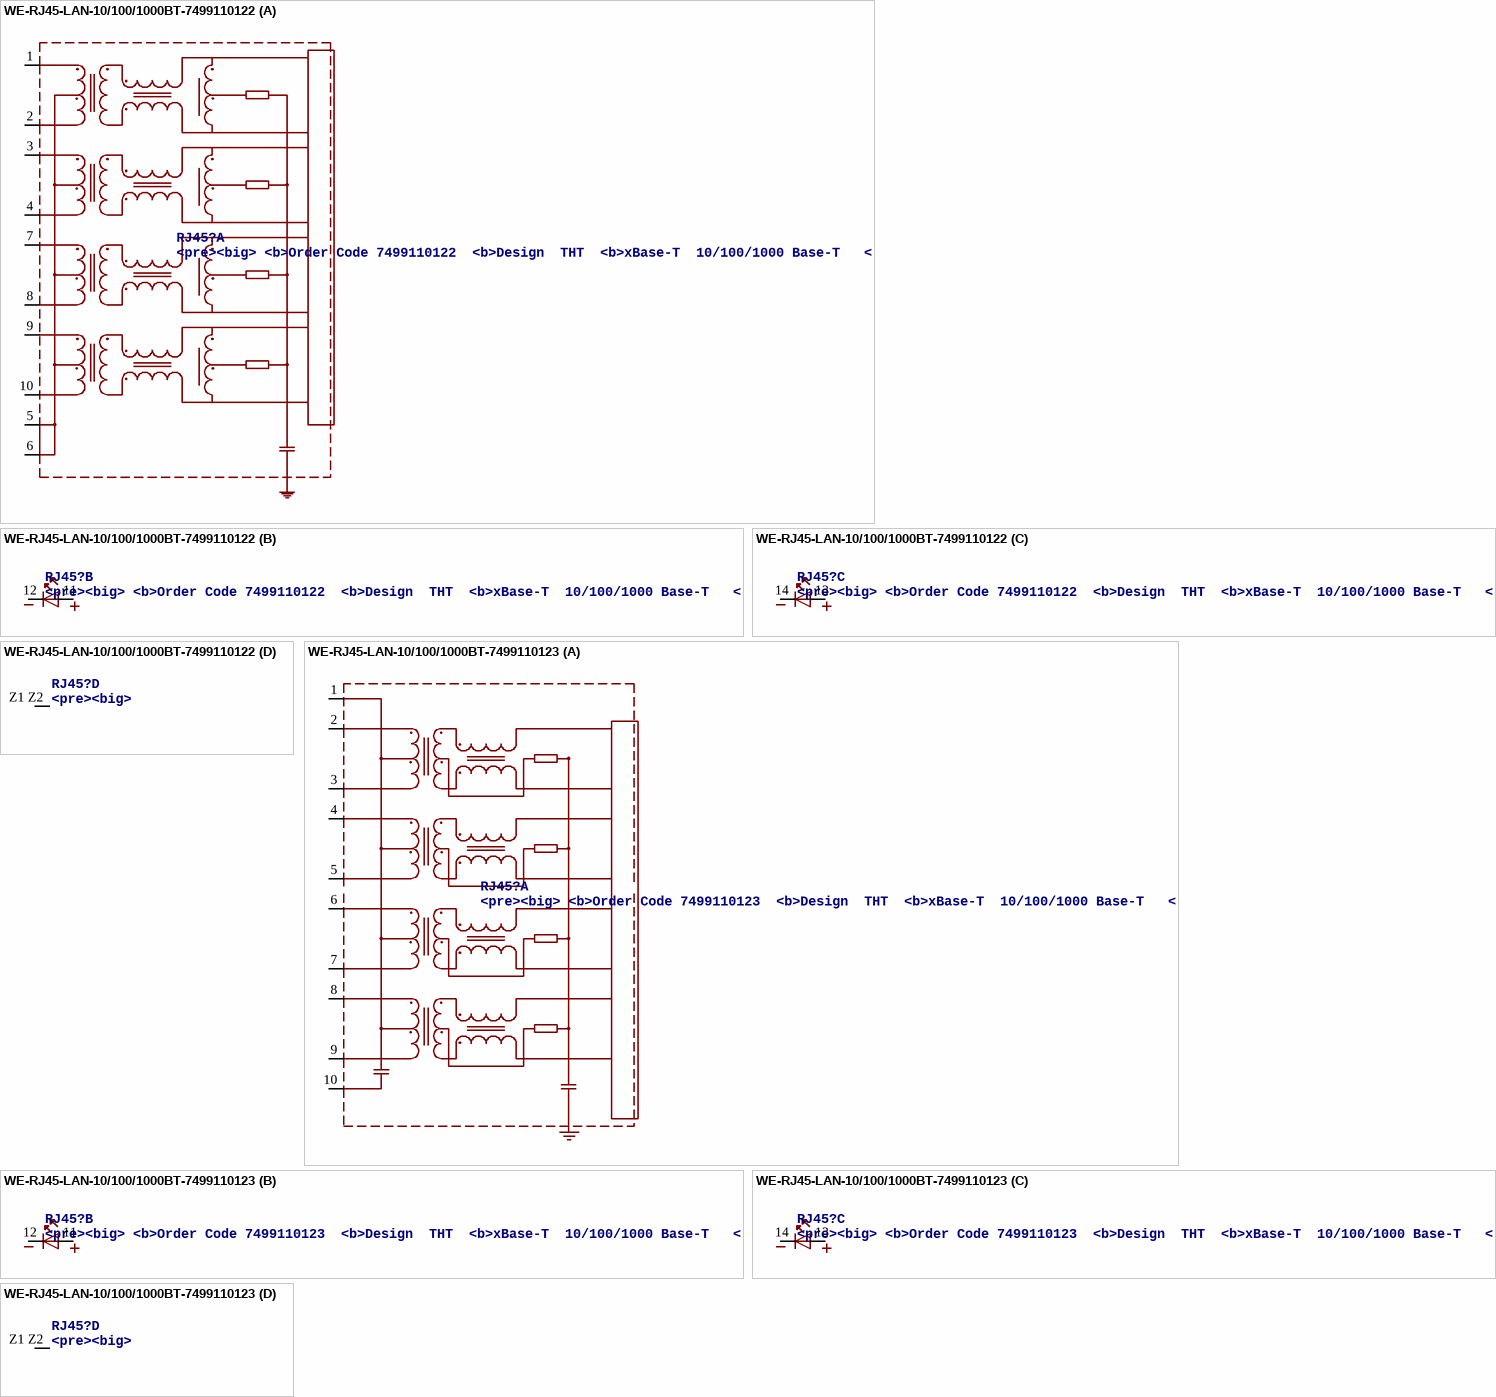
[diagram p13: symbols WE-RJ45-LAN-10/100/1000BT-7499110122 to WE-RJ45-LAN-10/100/1000BT-7499110123]

## WE-RJ45-LAN-10/100/1000BT-7499110122
designator RJ45?, comment <pre><big> / <b>Order Code	7499110122 / <b>Design		THT / <b>xBase-T		10/100/1000 Base-T / <b>Ports		1x1 / <b>Application	Standard / <b>Tab Position	Down / <b>LED (Left-Right)	YELLOW-GREEN / <b>EMI Fingers	No
MANUFACTURER: Würth Elektronik eiSos GmbH; CREATED-BY: Christin Zierenner; COMPANY-URL: http://www.we-online.de; CREATED-DATE: AUG 2012; DATASHEET-URL: http://katalog.we-online.de/kataloge/eisos/media/pdf/7499110122.pdf
footprint 7499110122
part A pins: 1, 2, 3, 4, 5, 6, 7, 8, 9, 10
part B pins: 11 A, 12 K
part C pins: 13 A, 14 K
part D pins: Z1 Z2 P$1 (power)

## WE-RJ45-LAN-10/100/1000BT-7499110123
designator RJ45?, comment <pre><big> / <b>Order Code	7499110123 / <b>Design		THT / <b>xBase-T		10/100/1000 Base-T / <b>Ports		1x1 / <b>Application	Standard / <b>Tab Position	VERTICAL / <b>LED (Left-Right)	YELLOW-GREEN / <b>EMI Fingers	No
MANUFACTURER: Würth Elektronik eiSos GmbH; CREATED-BY: Christin Zierenner; COMPANY-URL: http://www.we-online.de; CREATED-DATE: AUG 2012; DATASHEET-URL: http://katalog.we-online.de/kataloge/eisos/media/pdf/7499110123.pdf
footprint 7499110123
part A pins: 1, 2, 3, 4, 5, 6, 7, 8, 9, 10
part B pins: 11 A, 12 K
part C pins: 13 A, 14 K
part D pins: Z1 Z2 P$1 (power)

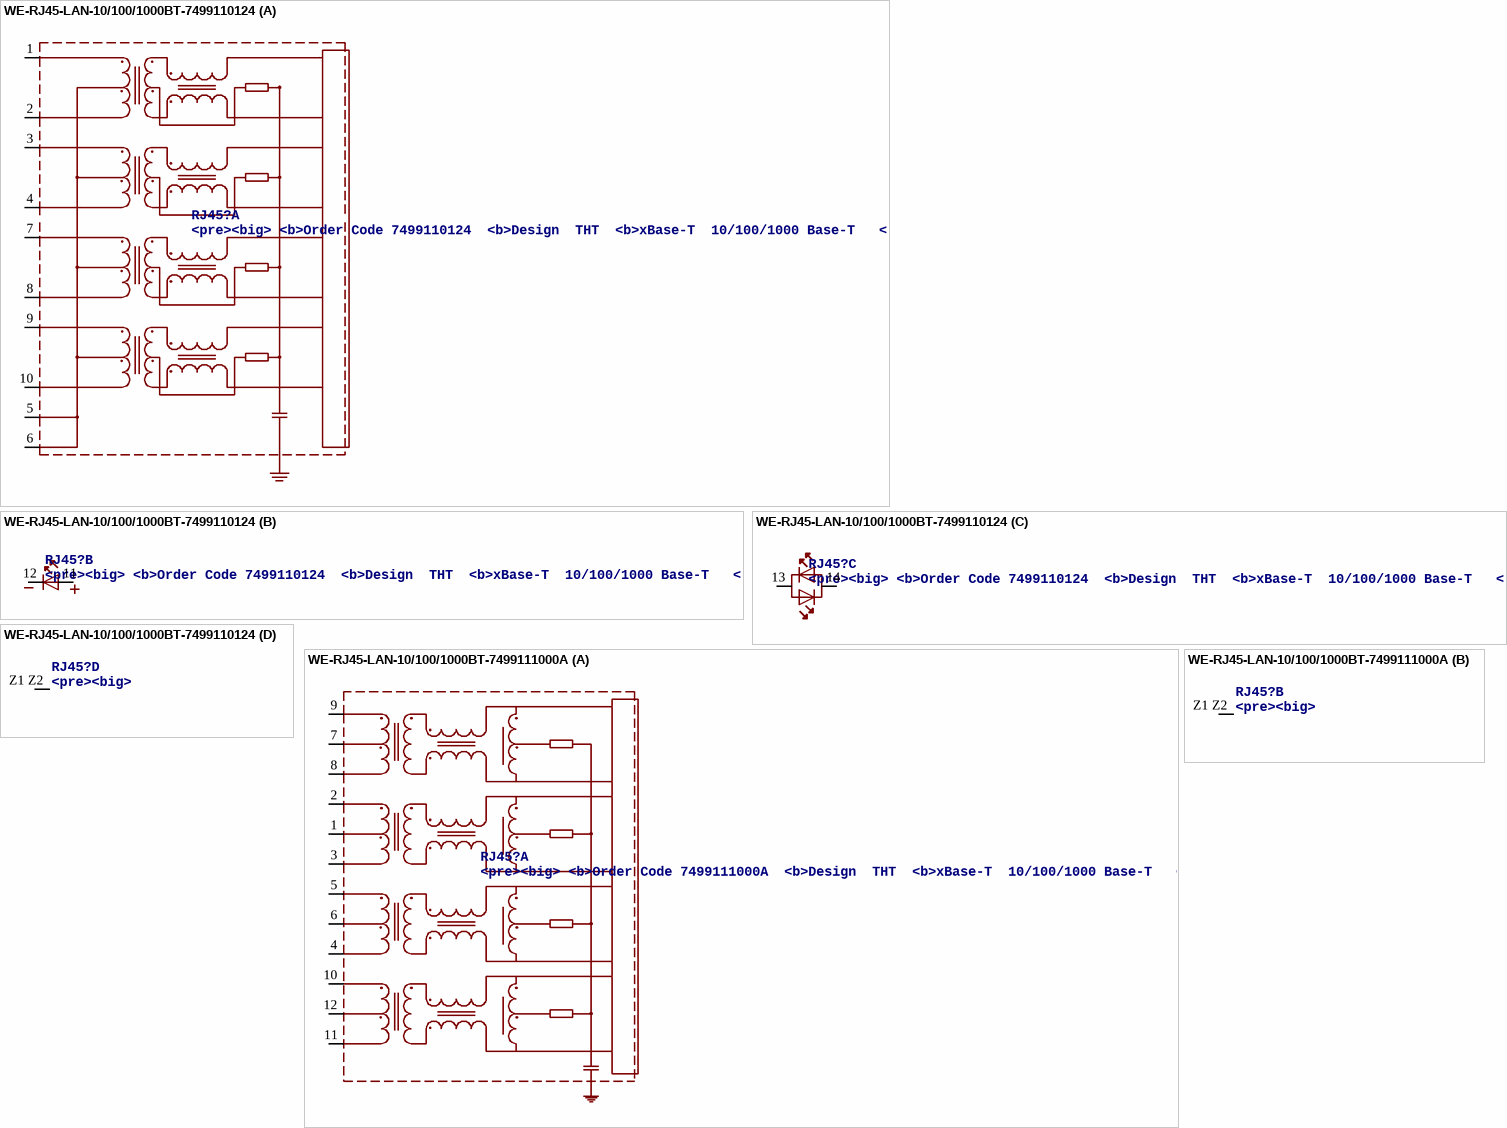
[diagram p14: symbols WE-RJ45-LAN-10/100/1000BT-7499110124 to WE-RJ45-LAN-10/100/1000BT-7499111000A]

## WE-RJ45-LAN-10/100/1000BT-7499110124
designator RJ45?, comment <pre><big> / <b>Order Code	7499110124 / <b>Design		THT / <b>xBase-T		10/100/1000 Base-T / <b>Ports		1x1 / <b>Application	Standard / <b>Tab Position	UP / <b>LED (Left-Right)	GREEN/YELLOW-GREEN / <b>EMI Fingers	No
MANUFACTURER: Würth Elektronik eiSos GmbH; CREATED-BY: Christin Zierenner; COMPANY-URL: http://www.we-online.de; CREATED-DATE: AUG 2012; DATASHEET-URL: http://katalog.we-online.de/kataloge/eisos/media/pdf/7499110124.pdf
footprint 7499110124
part A pins: 1, 2, 3, 4, 5, 6, 7, 8, 9, 10
part B pins: 11 A, 12 K
part C pins: 13 AK1, 14 AK2
part D pins: Z1 Z2 P$1 (power)

## WE-RJ45-LAN-10/100/1000BT-7499111000A
designator RJ45?, comment <pre><big> / <b>Order Code	7499111000A / <b>Design		THT / <b>xBase-T		10/100/1000 Base-T / <b>Ports		1x1 / <b>Application	Standard / <b>Tab Position	UP / <b>LED (Left-Right)	NONE / <b>EMI Fingers	Yes
MANUFACTURER: Würth Elektronik eiSos GmbH; CREATED-BY: Christin Zierenner; COMPANY-URL: http://www.we-online.de; CREATED-DATE: AUG 2012; DATASHEET-URL: http://katalog.we-online.de/kataloge/eisos/media/pdf/7499111000A.pdf
footprint 7499111000A
part A pins: 1, 2, 3, 4, 5, 6, 7, 8, 9, 10, 11, 12
part B pins: Z1 Z2 P$1 (power)

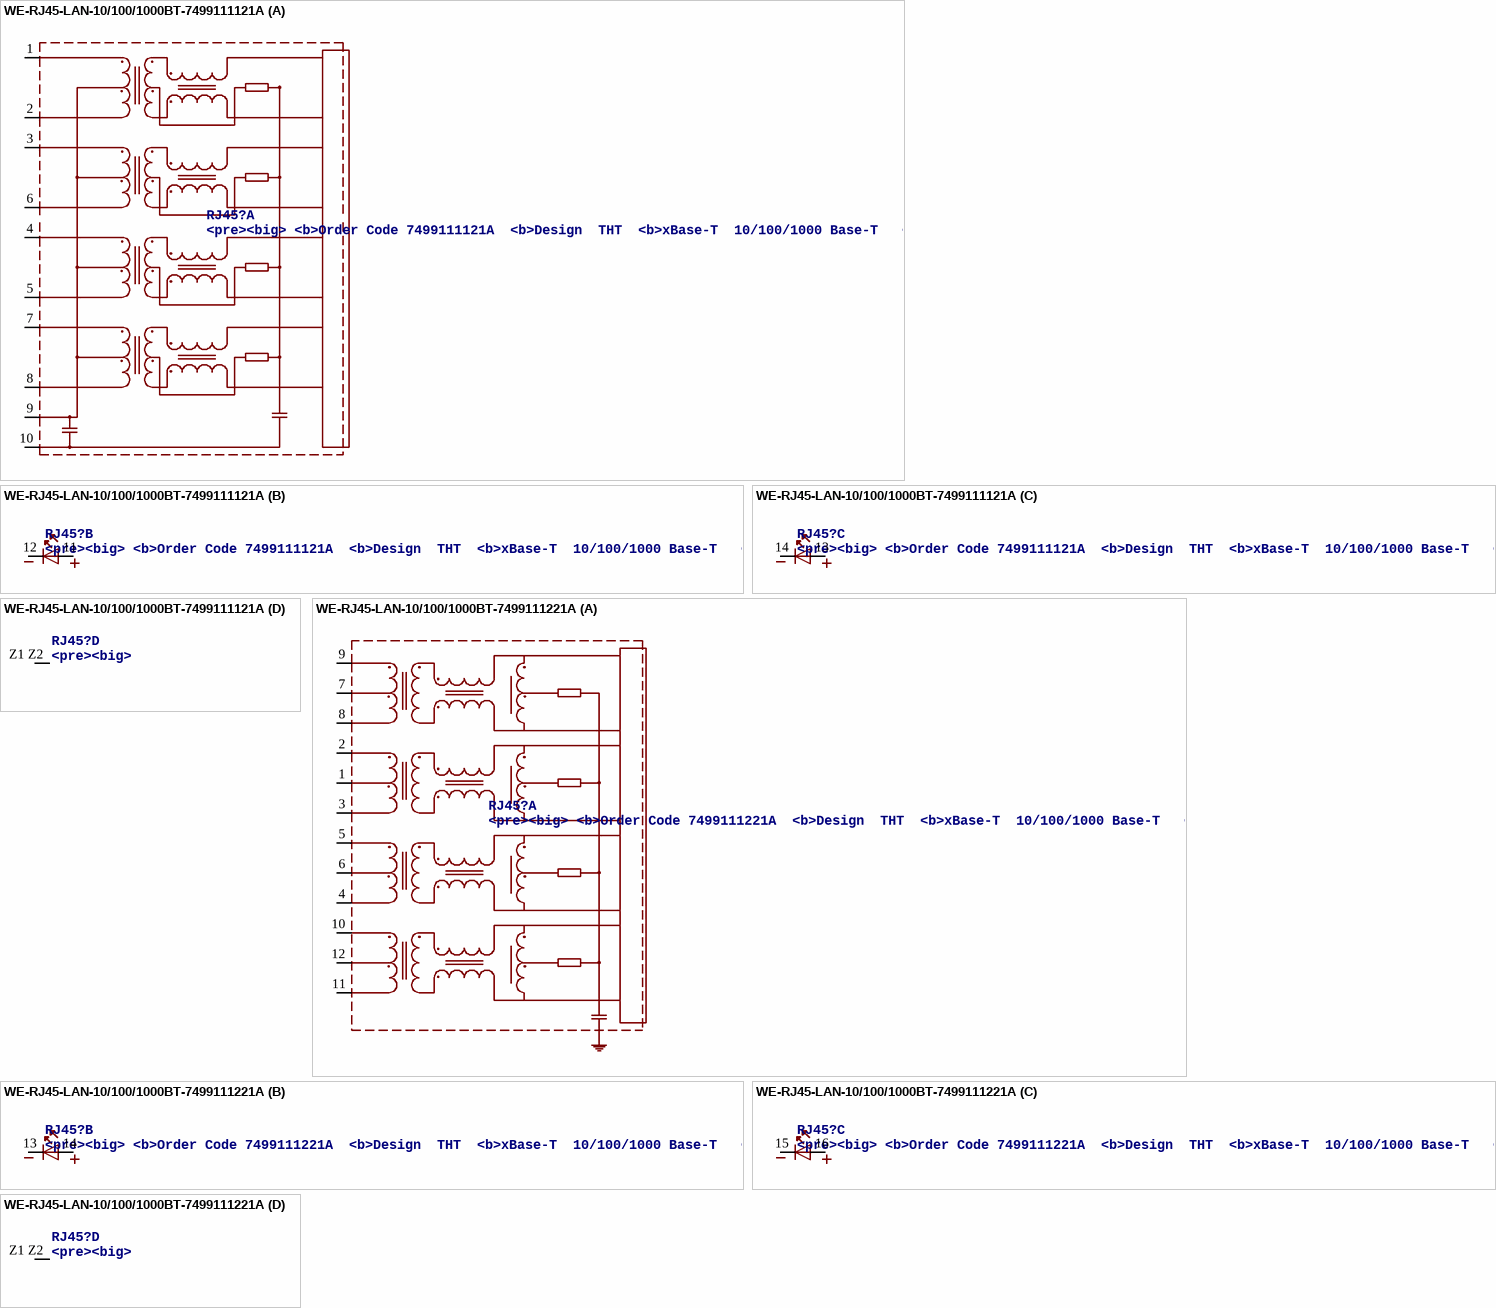
[diagram p15: symbols WE-RJ45-LAN-10/100/1000BT-7499111121A to WE-RJ45-LAN-10/100/1000BT-7499111221A]

## WE-RJ45-LAN-10/100/1000BT-7499111121A
designator RJ45?, comment <pre><big> / <b>Order Code	7499111121A / <b>Design		THT / <b>xBase-T		10/100/1000 Base-T / <b>Ports		1x1 / <b>Application	Standard / <b>Tab Position	DOWN / <b>LED (Left-Right)	YELLOW-GREEN / <b>EMI Fingers	Yes
MANUFACTURER: Würth Elektronik eiSos GmbH; CREATED-BY: Christin Zierenner; COMPANY-URL: http://www.we-online.de; CREATED-DATE: AUG 2012; DATASHEET-URL: http://katalog.we-online.de/kataloge/eisos/media/pdf/7499111121A.pdf
footprint 7499111121A
part A pins: 1, 2, 3, 4, 5, 6, 7, 8, 9 (power), 10 (power)
part B pins: 11 A, 12 K
part C pins: 13 A, 14 K
part D pins: Z1 Z2 P$1 (power)

## WE-RJ45-LAN-10/100/1000BT-7499111221A
designator RJ45?, comment <pre><big> / <b>Order Code	7499111221A / <b>Design		THT / <b>xBase-T		10/100/1000 Base-T / <b>Ports		1x1 / <b>Application	Standard / <b>Tab Position	UP / <b>LED (Left-Right)	GREEN-GREEN / <b>EMI Fingers	Yes
MANUFACTURER: Würth Elektronik eiSos GmbH; CREATED-BY: Christin Zierenner; COMPANY-URL: http://www.we-online.de; CREATED-DATE: AUG 2012; DATASHEET-URL: http://katalog.we-online.de/kataloge/eisos/media/pdf/7499111221A.pdf
footprint 7499111221A
part A pins: 1, 2, 3, 4, 5, 6, 7, 8, 9, 10, 11, 12
part B pins: 13 K, 14 A
part C pins: 15 K, 16 A
part D pins: Z1 Z2 P$1 (power)

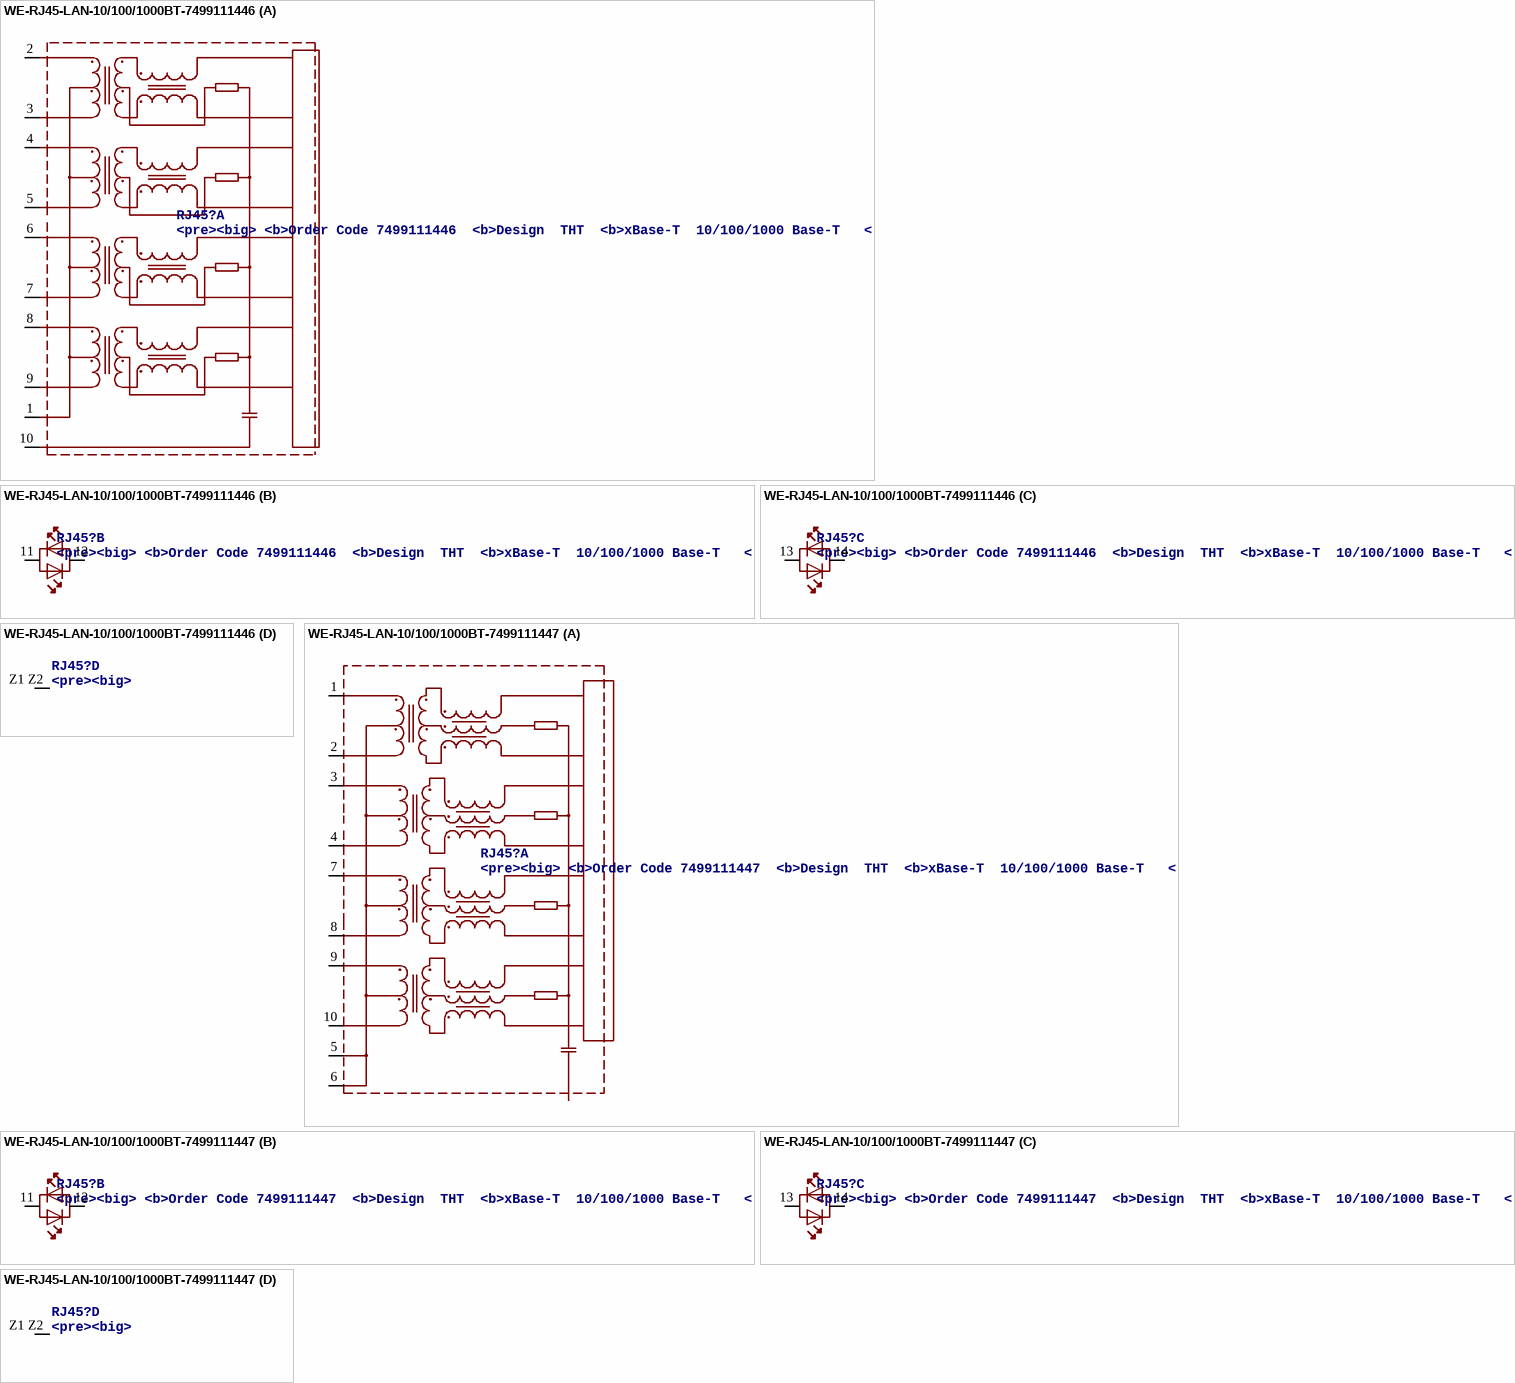
[diagram p16: symbols WE-RJ45-LAN-10/100/1000BT-7499111446 to WE-RJ45-LAN-10/100/1000BT-7499111447]

## WE-RJ45-LAN-10/100/1000BT-7499111446
designator RJ45?, comment <pre><big> / <b>Order Code	7499111446 / <b>Design		THT / <b>xBase-T		10/100/1000 Base-T / <b>Ports		1x1 / <b>Application	Standard / <b>Tab Position	DOWN / <b>LED (Left-Right)	GREEN/YELLOW-GREEN/YELLOW / <b>EMI Fingers	yes
MANUFACTURER: Würth Elektronik eiSos GmbH; CREATED-BY: Christin Zierenner; COMPANY-URL: http://www.we-online.de; CREATED-DATE: AUG 2012; DATASHEET-URL: http://katalog.we-online.de/kataloge/eisos/media/pdf/7499111446.pdf
footprint 7499111446
part A pins: 1, 2, 3, 4, 5, 6, 7, 8, 9, 10 (power)
part B pins: 11 AK1, 12 AK2
part C pins: 13 AK1, 14 AK2
part D pins: Z1 Z2 P$1 (power)

## WE-RJ45-LAN-10/100/1000BT-7499111447
designator RJ45?, comment <pre><big> / <b>Order Code	7499111447 / <b>Design		THT / <b>xBase-T		10/100/1000 Base-T / <b>Ports		1x1 / <b>Application	Standard / <b>Tab Position	Up / <b>LED (Left-Right)	GREEN/YELLOW-GREEN/YELLOW / <b>EMI Fingers	yes
MANUFACTURER: Würth Elektronik eiSos GmbH; CREATED-BY: Christin Zierenner; COMPANY-URL: http://www.we-online.de; CREATED-DATE: AUG 2012; DATASHEET-URL: http://katalog.we-online.de/kataloge/eisos/media/pdf/7499111447.pdf
footprint 7499111447
part A pins: 1, 2, 3, 4, 5, 6, 7, 8, 9, 10
part B pins: 11 AK1, 12 AK2
part C pins: 13 AK1, 14 AK2
part D pins: Z1 Z2 P$1 (power)

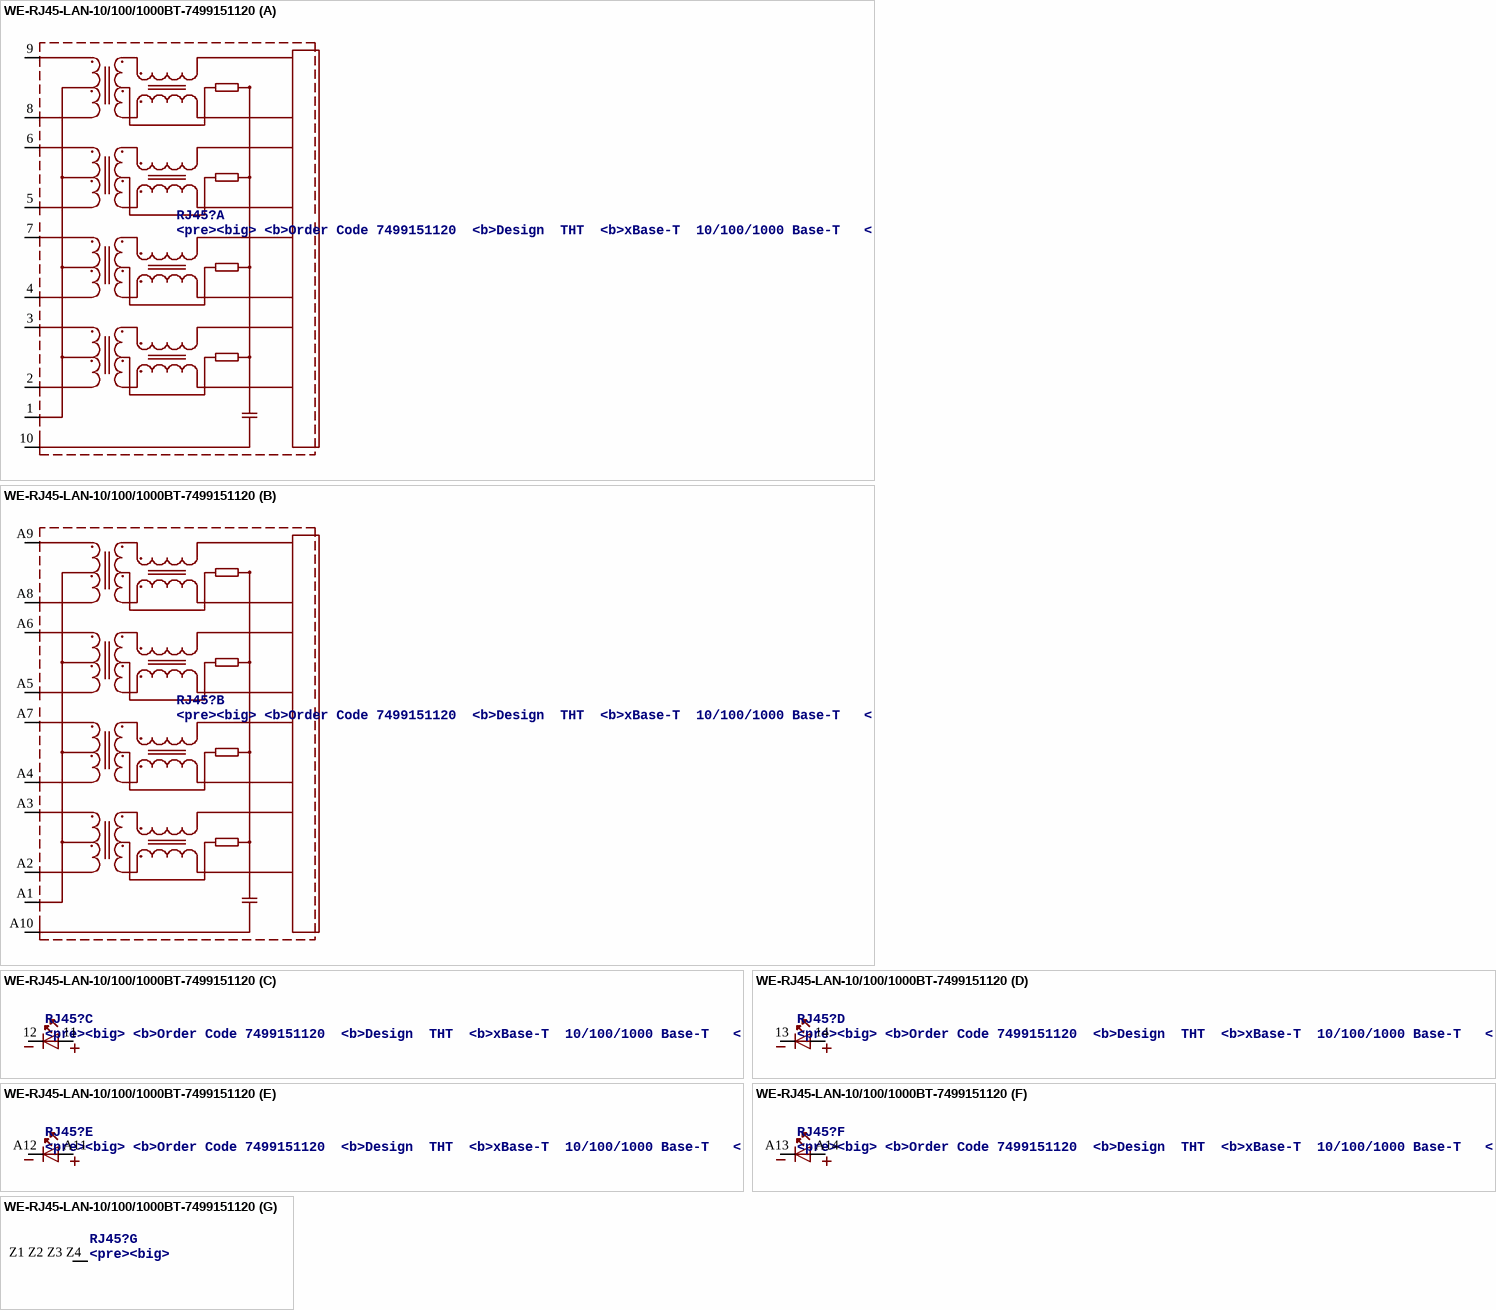
[diagram p17: symbol WE-RJ45-LAN-10/100/1000BT-7499151120]

## WE-RJ45-LAN-10/100/1000BT-7499151120
designator RJ45?, comment <pre><big> / <b>Order Code	7499151120 / <b>Design		THT / <b>xBase-T		10/100/1000 Base-T / <b>Ports		1x2 Stacked / <b>Application	Standard / <b>Tab Position	UP & DOWN / <b>LED (Left-Right)	YELLOW-GREEN / <b>EMI Fingers	Yes
MANUFACTURER: Würth Elektronik eiSos GmbH; CREATED-BY: Christin Zierenner; COMPANY-URL: http://www.we-online.de; CREATED-DATE: AUG 2012; DATASHEET-URL: http://katalog.we-online.de/kataloge/eisos/media/pdf/7499151120.pdf
footprint 7499151120
part A pins: 1, 2, 3, 4, 5, 6, 7, 8, 9, 10 SHIELD (power)
part B pins: A1 1, A2 2, A3 3, A4 4, A5 5, A6 6, A7 7, A8 8, A9 9, A10 SHIELD (power)
part C pins: 11 A, 12 K
part D pins: 13 K, 14 A
part E pins: A11 A, A12 K
part F pins: A13 K, A14 A
part G pins: Z1 Z2 Z3 Z4 P$1 (power)

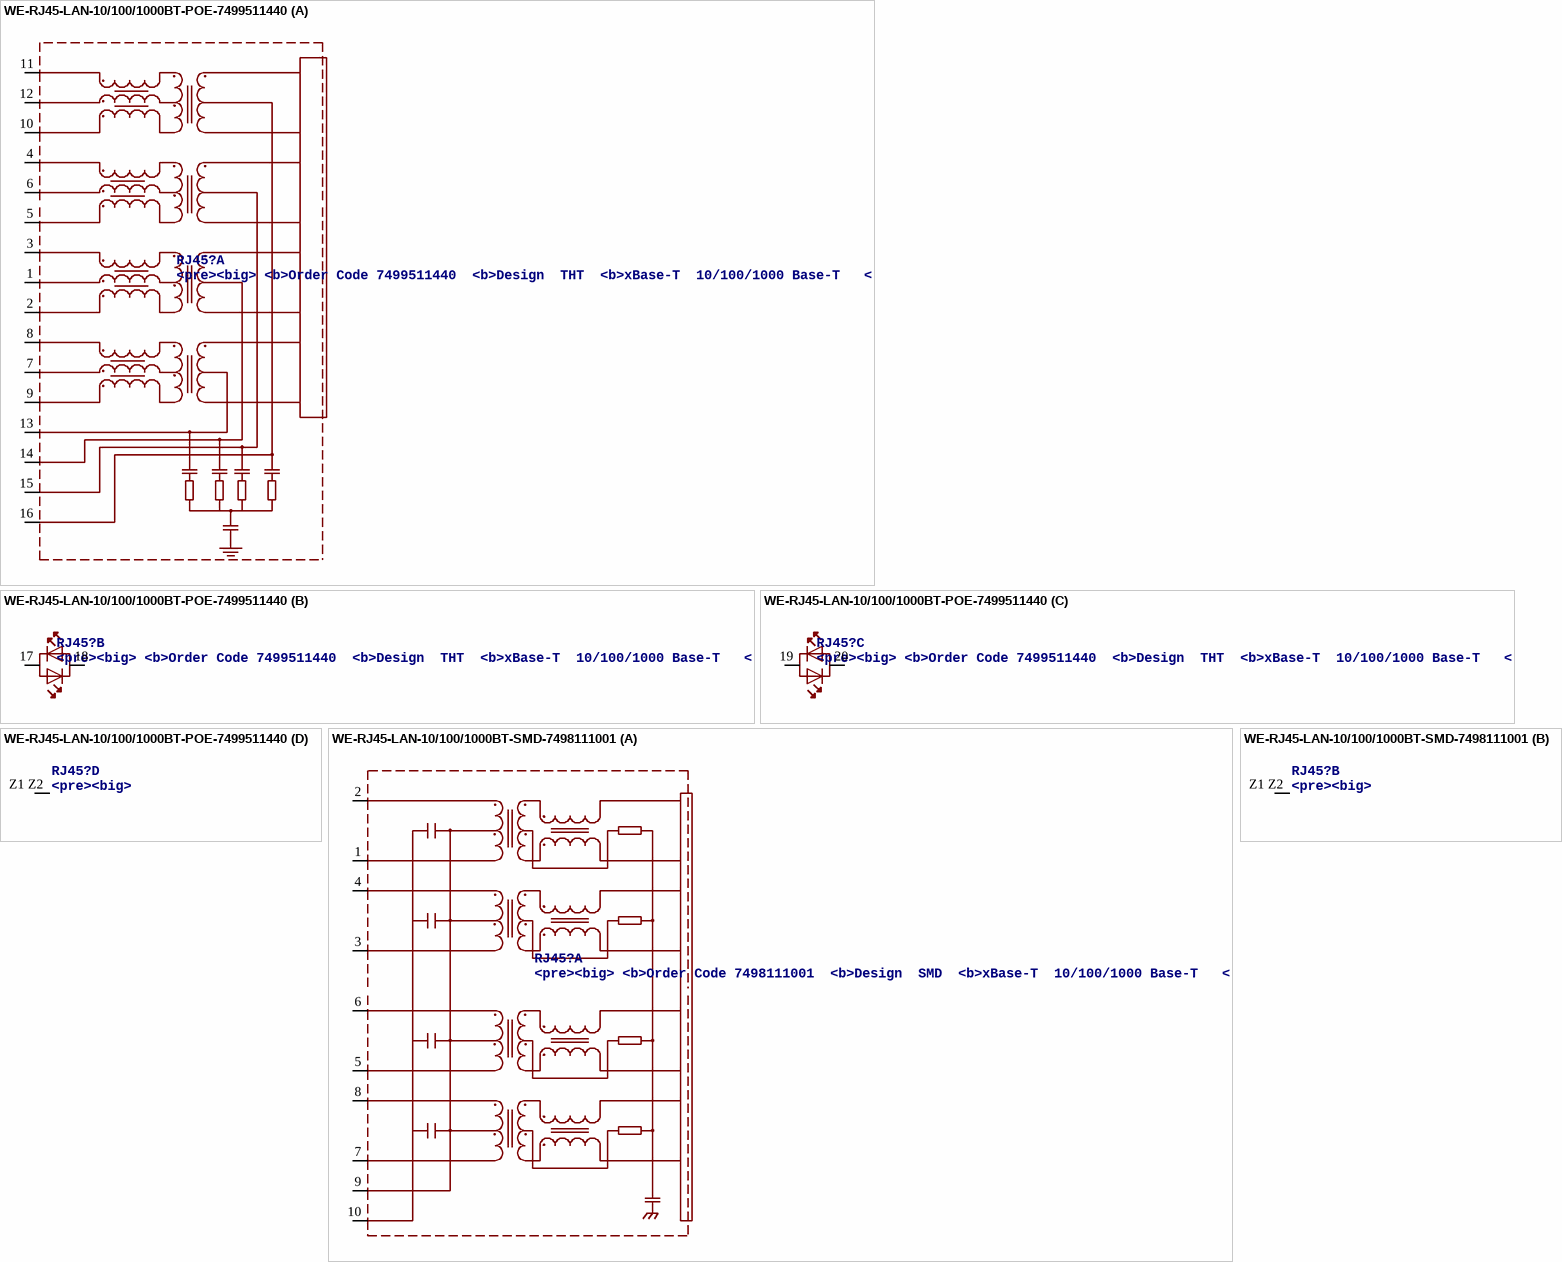
[diagram p18: symbols WE-RJ45-LAN-10/100/1000BT-POE-7499511440 to WE-RJ45-LAN-10/100/1000BT-SMD-7498111001]

## WE-RJ45-LAN-10/100/1000BT-POE-7499511440
designator RJ45?, comment <pre><big> / <b>Order Code	7499511440 / <b>Design		THT / <b>xBase-T		10/100/1000 Base-T / <b>Ports		1x1 / <b>Application	PoE / <b>Tab Position	UP / <b>LED (Left-Right)	GREEN/YELLOW-GREEN/YELLOW / <b>EMI Fingers	Yes
MANUFACTURER: Würth Elektronik eiSos GmbH; CREATED-BY: Christin Zierenner; COMPANY-URL: http://www.we-online.de; CREATED-DATE: AUG 2012; DATASHEET-URL: http://katalog.we-online.de/kataloge/eisos/media/pdf/7499511440.pdf
footprint 7499511440
part A pins: 1, 2, 3, 4, 5, 6, 7, 8, 9, 10, 11, 12, 13 VC1+1 (power), 14 VC1-1 (power), 15 VC2+1 (power), 16 VC2-1 (power)
part B pins: 17 AK1, 18 AK2
part C pins: 19 AK1, 20 AK2
part D pins: Z1 Z2 P$1 (power)

## WE-RJ45-LAN-10/100/1000BT-SMD-7498111001
designator RJ45?, comment <pre><big> / <b>Order Code	7498111001 / <b>Design		SMD / <b>xBase-T		10/100/1000 Base-T / <b>Ports		1x1 / <b>Application	Standard / <b>Tab Position	UP / <b>LED (Left-Right)	NONE / <b>EMI Fingers	Yes
MANUFACTURER: Würth Elektronik eiSos GmbH; CREATED-BY: Christin Zierenner; COMPANY-URL: http://www.we-online.de; CREATED-DATE: AUG 2012; DATASHEET-URL: http://katalog.we-online.de/kataloge/eisos/media/pdf/7498111001.pdf
footprint 7498111001
part A pins: 1, 2, 3, 4, 5, 6, 7, 8, 9 VCC (power), 10 GND (power)
part B pins: Z1 Z2 P$1 (power)

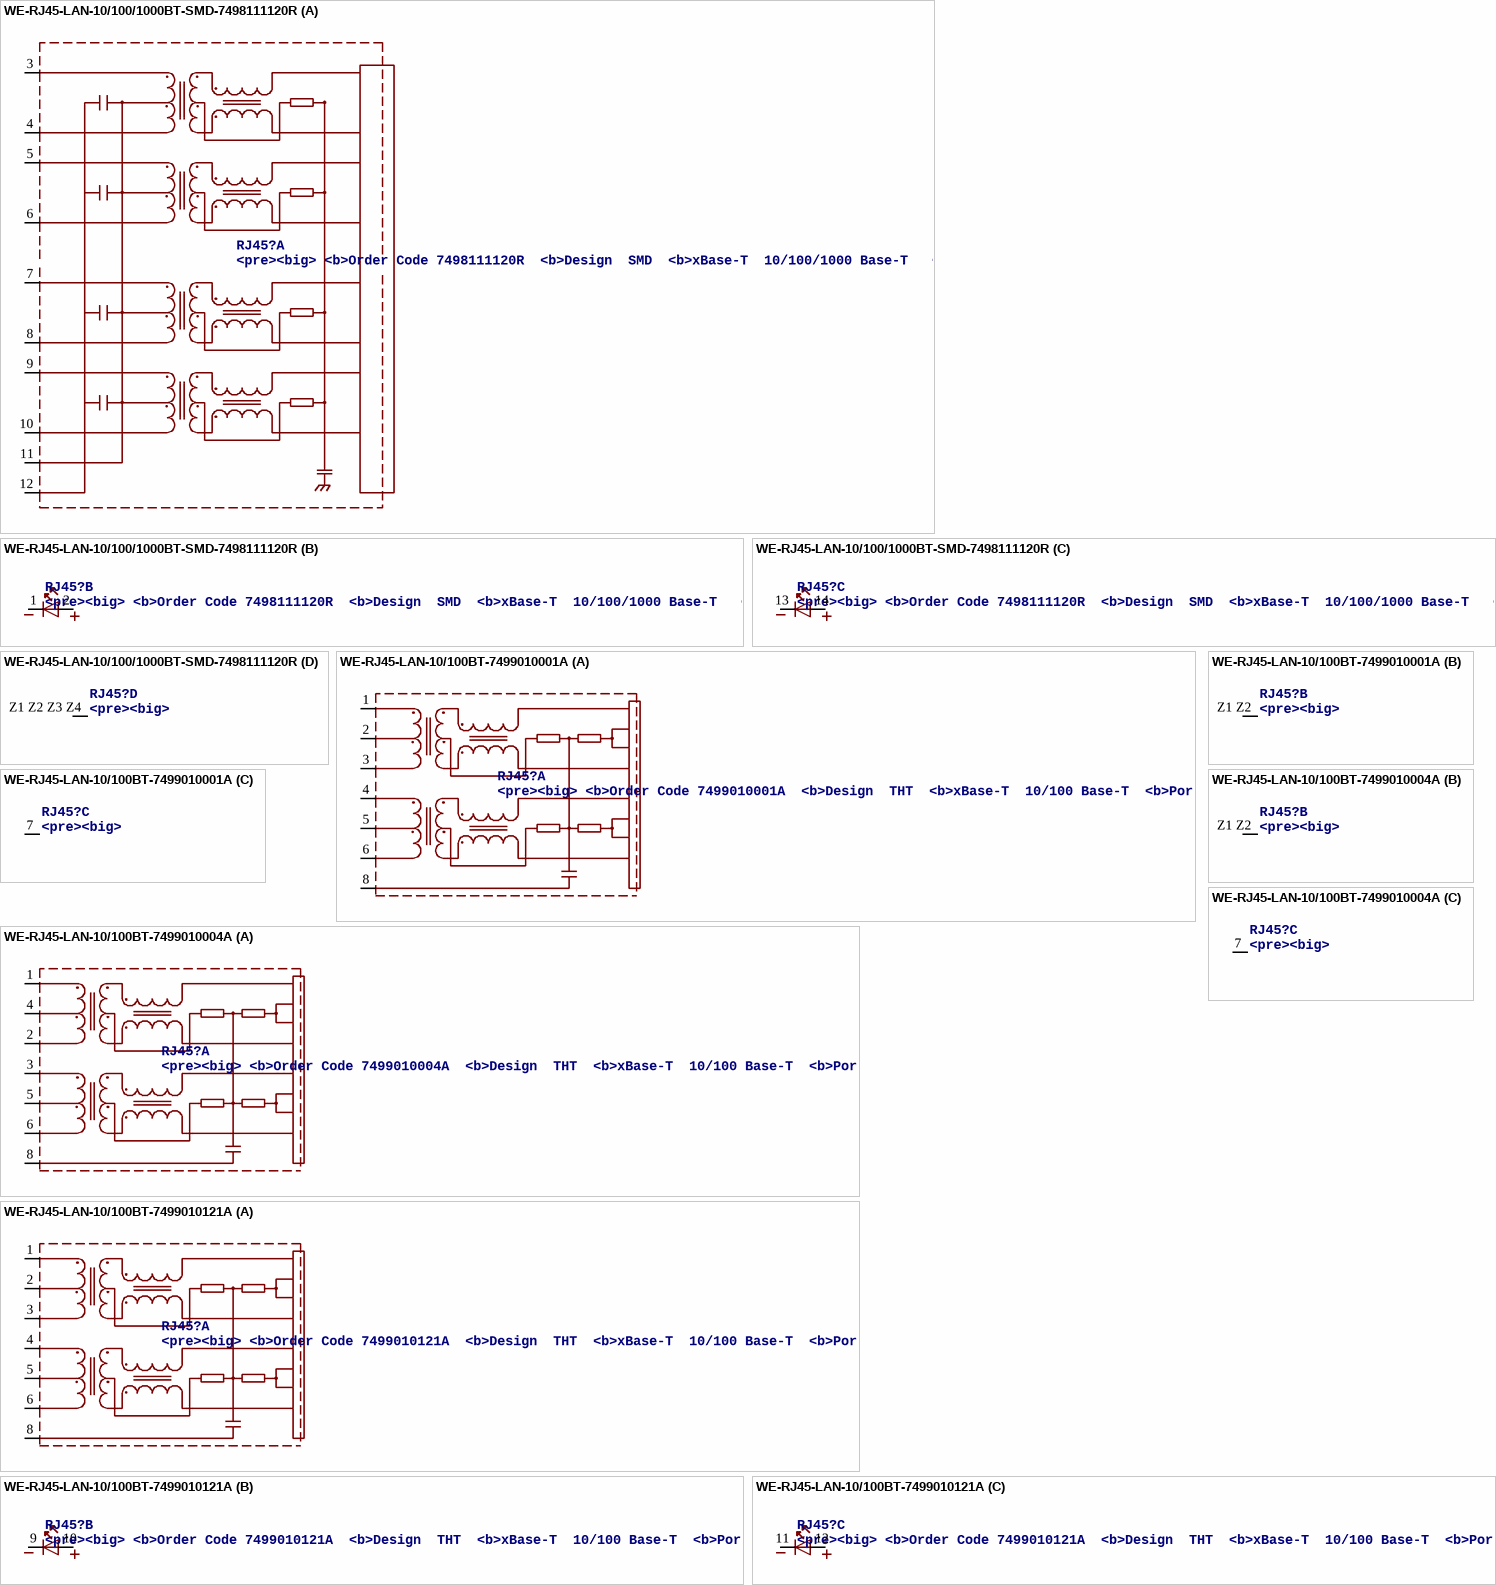
[diagram p19: symbols WE-RJ45-LAN-10/100/1000BT-SMD-7498111120R to WE-RJ45-LAN-10/100BT-7499010121A]

## WE-RJ45-LAN-10/100/1000BT-SMD-7498111120R
designator RJ45?, comment <pre><big> / <b>Order Code	7498111120R / <b>Design		SMD / <b>xBase-T		10/100/1000 Base-T / <b>Ports		1x1 / <b>Application	Standard / <b>Tab Position	UP / <b>LED (Left-Right)	YELLOW-GREEN / <b>EMI Fingers	Yes
MANUFACTURER: Würth Elektronik eiSos GmbH; CREATED-BY: Christin Zierenner; COMPANY-URL: http://www.we-online.de; CREATED-DATE: AUG 2012; DATASHEET-URL: http://katalog.we-online.de/kataloge/eisos/media/pdf/7498111120R.pdf
footprint 7498111120R
part A pins: 3 TRD0+, 4 TRD0-, 5 TRD1+, 6 TRD1-, 7 TRD2+, 8 TRD2-, 9 TRD3+, 10 TRD3-, 11 VCC (power), 12 GND (power)
part B pins: 1 K, 2 A
part C pins: 13 K, 14 A
part D pins: Z1 Z2 Z3 Z4 P$1 (power)

## WE-RJ45-LAN-10/100BT-7499010001A
designator RJ45?, comment <pre><big> / <b>Order Code	7499010001A / <b>Design		THT / <b>xBase-T		10/100 Base-T / <b>Ports		1x1 / <b>Application	Standard / <b>Tab Position	UP / <b>LED (Left-Right)	NONE / <b>EMI Fingers	No
MANUFACTURER: Würth Elektronik eiSos GmbH; CREATED-BY: Christin Zierenner; COMPANY-URL: http://www.we-online.de; CREATED-DATE: AUG 2012; DATASHEET-URL: http://katalog.we-online.de/kataloge/eisos/media/pdf/7499010001A.pdf
footprint 74990-WITHOUT-LED
part A pins: 1 RD+, 2 RCT, 3 RD-, 4 TD+, 5 TCT, 6 TD-, 8 SH (power)
part B pins: Z1 Z2 P$1 (power)
part C pins: 7 NC

## WE-RJ45-LAN-10/100BT-7499010004A
designator RJ45?, comment <pre><big> / <b>Order Code	7499010004A / <b>Design		THT / <b>xBase-T		10/100 Base-T / <b>Ports		1x1 / <b>Application	Standard / <b>Tab Position	Down / <b>LED (Left-Right)	NONE / <b>EMI Fingers	No
MANUFACTURER: Würth Elektronik eiSos GmbH; CREATED-BY: Christin Zierenner; COMPANY-URL: http://www.we-online.de; CREATED-DATE: AUG 2012; DATASHEET-URL: http://katalog.we-online.de/kataloge/eisos/media/pdf/7499010004A.pdf
footprint 7499010004A
part A pins: 1 RD+, 2 RD-, 3 TD+, 4 RCT, 5 TCT, 6 TD-, 8 SH (power)
part B pins: Z1 Z2 P$1 (power)
part C pins: 7 NC

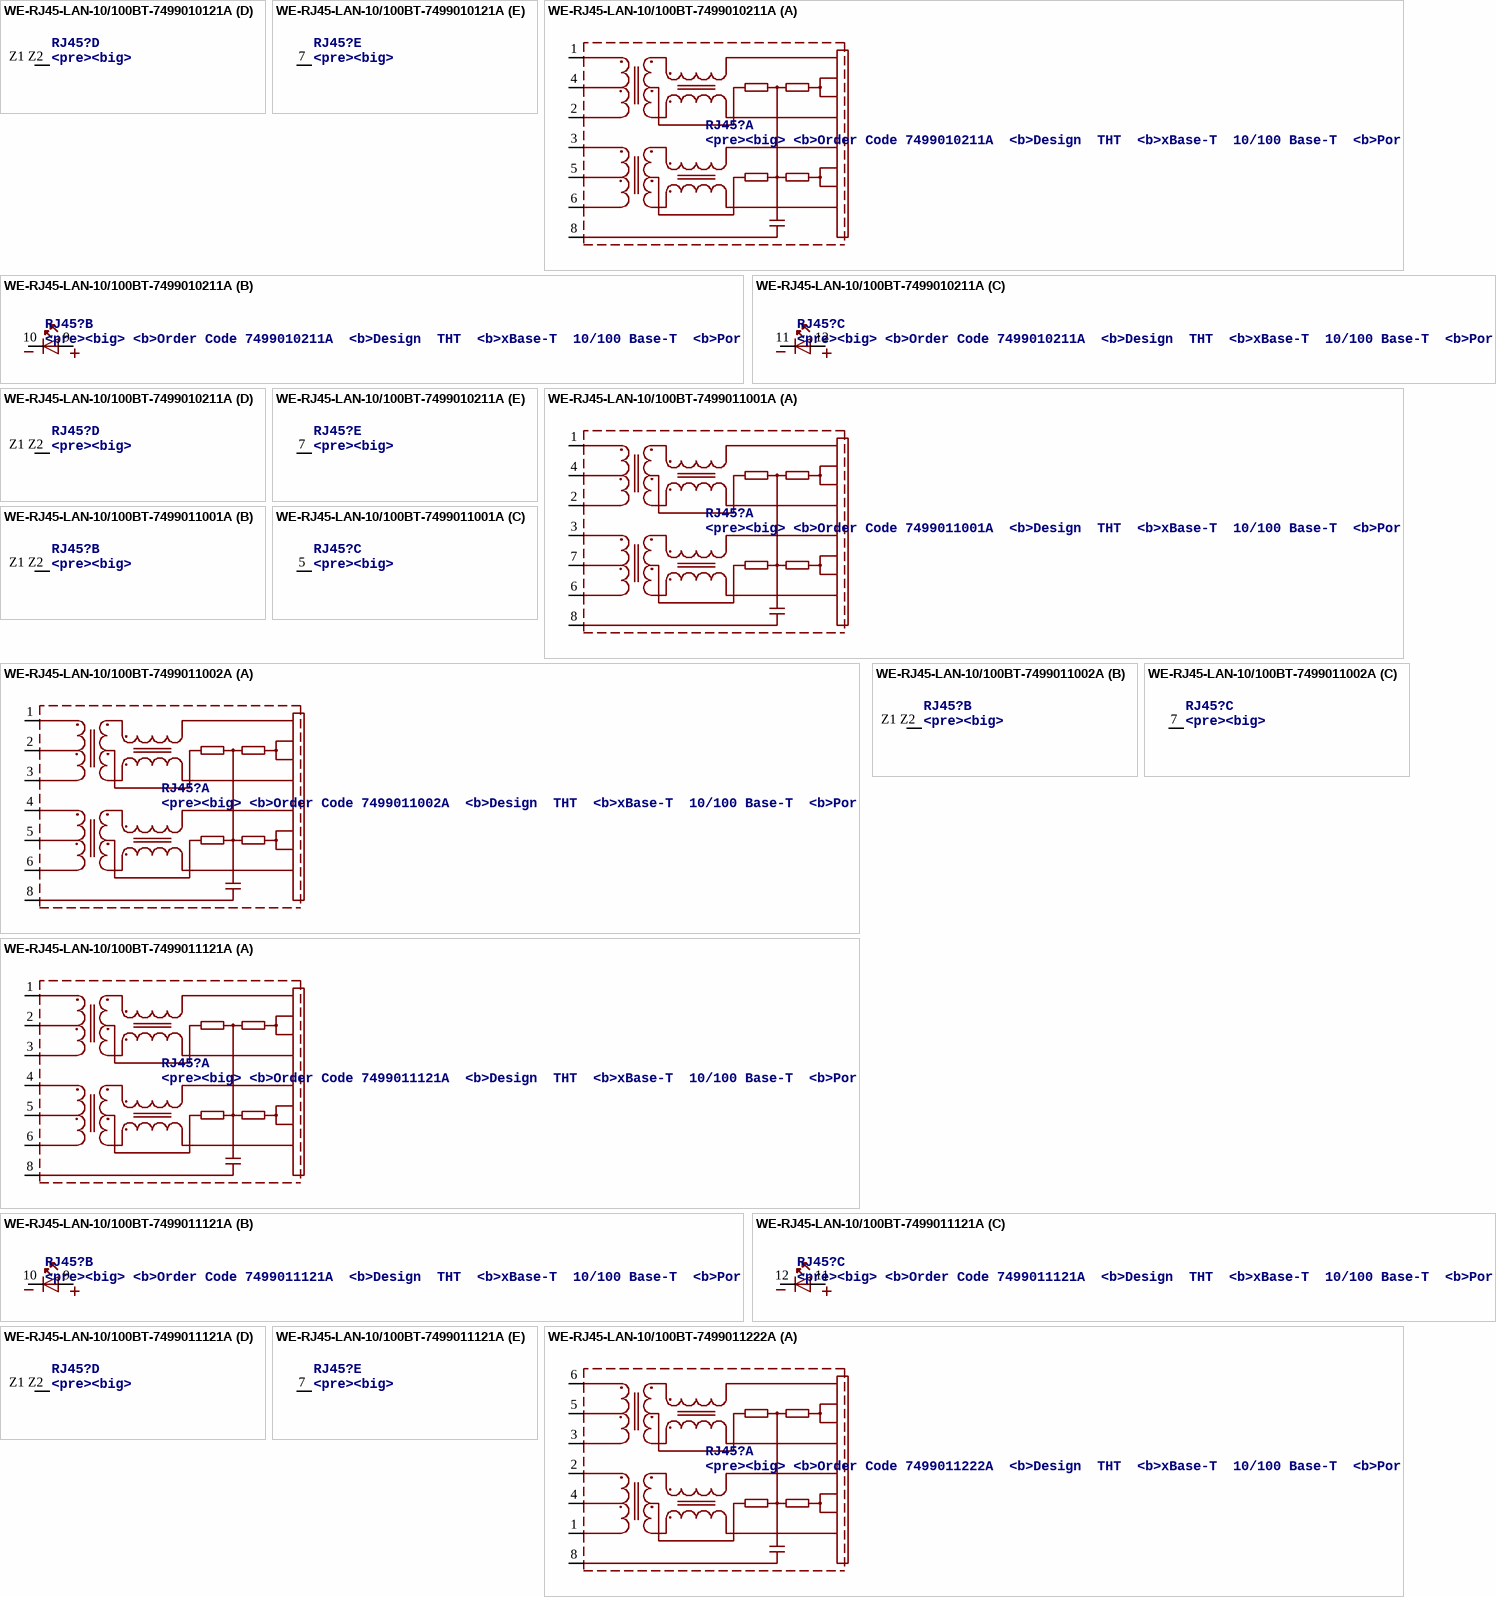
[diagram p20: symbols WE-RJ45-LAN-10/100BT-7499010121A to WE-RJ45-LAN-10/100BT-7499011222A]

## WE-RJ45-LAN-10/100BT-7499010121A
designator RJ45?, comment <pre><big> / <b>Order Code	7499010121A / <b>Design		THT / <b>xBase-T		10/100 Base-T / <b>Ports		1x1 / <b>Application	Standard / <b>Tab Position	UP / <b>LED (Left-Right)	Yellow-Green / <b>EMI Fingers	No
MANUFACTURER: Würth Elektronik eiSos GmbH; CREATED-BY: Christin Zierenner; COMPANY-URL: http://www.we-online.de; CREATED-DATE: AUG 2012; DATASHEET-URL: http://katalog.we-online.de/kataloge/eisos/media/pdf/7499010121A.pdf
footprint 74990-WITH-LED
part A pins: 1 TD+, 2 TCT, 3 TD-, 4 RD+, 5 RCT, 6 RD-, 8 SH (power)
part B pins: 9 K, 10 A
part C pins: 11 K, 12 A
part D pins: Z1 Z2 P$1 (power)
part E pins: 7 NC

## WE-RJ45-LAN-10/100BT-7499010211A
designator RJ45?, comment <pre><big> / <b>Order Code	7499010211A / <b>Design		THT / <b>xBase-T		10/100 Base-T / <b>Ports		1x1 / <b>Application	Standard / <b>Tab Position	DOWN / <b>LED (Left-Right)	Green-Yellow / <b>EMI Fingers	No
MANUFACTURER: Würth Elektronik eiSos GmbH; CREATED-BY: Christin Zierenner; COMPANY-URL: http://www.we-online.de; CREATED-DATE: AUG 2012; DATASHEET-URL: http://katalog.we-online.de/kataloge/eisos/media/pdf/7499010211A.pdf
footprint 74990-WITH-LED-TYPE2
part A pins: 1 TD+, 2 TD-, 3 RD+, 4 TCT, 5 RCT, 6 RD-, 8 SH (power)
part B pins: 9 A, 10 K
part C pins: 11 K, 12 A
part D pins: Z1 Z2 P$1 (power)
part E pins: 7 NC

## WE-RJ45-LAN-10/100BT-7499011001A
designator RJ45?, comment <pre><big> / <b>Order Code	7499011001A / <b>Design		THT / <b>xBase-T		10/100 Base-T / <b>Ports		1x1 / <b>Application	Standard / <b>Tab Position	Down / <b>LED (Left-Right)	NONE / <b>EMI Fingers	Yes
MANUFACTURER: Würth Elektronik eiSos GmbH; CREATED-BY: Christin Zierenner; COMPANY-URL: http://www.we-online.de; CREATED-DATE: AUG 2012; DATASHEET-URL: http://katalog.we-online.de/kataloge/eisos/media/pdf/7499011001A.pdf
footprint 74990-WITHOUT-LED-(21.84X15.88MM)
part A pins: 1 TD+, 2 TD-, 3 RD+, 4 TCT, 6 RD-, 7 RCT, 8 SH (power)
part B pins: Z1 Z2 P$1 (power)
part C pins: 5 NC